# Altium schematic symbol library SCH-47569_A2_Library.SchLib: 96 symbols (part 2 of 3)
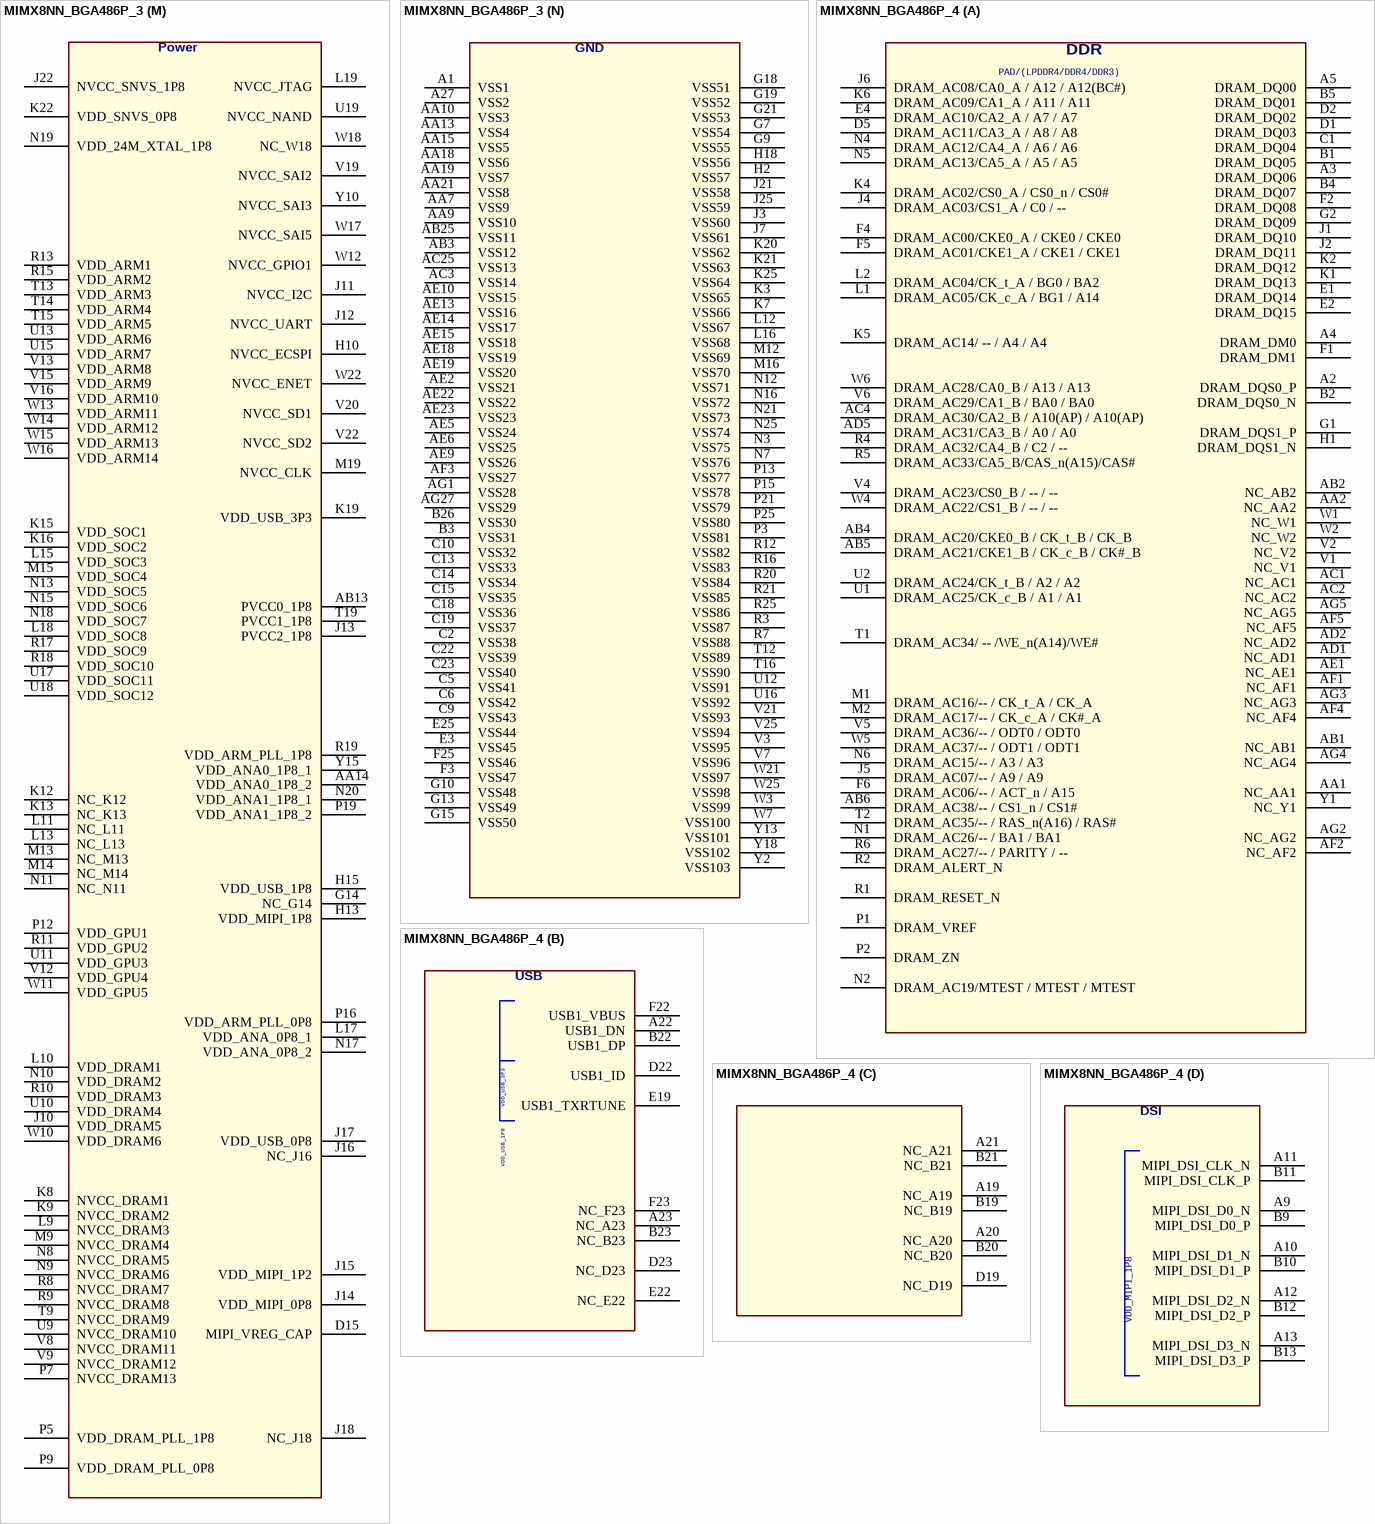
[diagram p31: symbols MIMX8NN_BGA486P_3 to MIMX8NN_BGA486P_4]

## MIMX8NN_BGA486P_3
designator U?
CLASS: IC
part A pins: A2 DRAM_DQS0_P, A3 DRAM_DQ06, A4 DRAM_DM0, A5 DRAM_DQ00, AA1 NC_AA1, AA2 NC_AA2, AB1 NC_AB1, AB2 NC_AB2, AB4 DRAM_AC20/CKE0_B / CK_t_B / CK_B, AB5 DRAM_AC21/CKE1_B / CK_c_B / CK#_B, AB6 DRAM_AC38/-- / CS1_n / CS1#, AC1 NC_AC1, AC2 NC_AC2, AC4 DRAM_AC30/CA2_B / A10(AP) / A10(AP), AD1 NC_AD1, AD2 NC_AD2, AD5 DRAM_AC31/CA3_B / A0 / A0, AE1 NC_AE1, AF1 NC_AF1, AF2 NC_AF2, AF4 NC_AF4, AF5 NC_AF5, AG2 NC_AG2, AG3 NC_AG3, AG4 NC_AG4, AG5 NC_AG5, B1 DRAM_DQ05, B2 DRAM_DQS0_N, B4 DRAM_DQ07, B5 DRAM_DQ01, C1 DRAM_DQ04, D1 DRAM_DQ03, D2 DRAM_DQ02, D5 DRAM_AC11/CA3_A / A8 / A8, E1 DRAM_DQ14, E2 DRAM_DQ15, E4 DRAM_AC10/CA2_A / A7 / A7, F1 DRAM_DM1, F2 DRAM_DQ08, F4 DRAM_AC00/CKE0_A / CKE0 / CKE0, F5 DRAM_AC01/CKE1_A / CKE1 / CKE1, F6 DRAM_AC06/-- / ACT_n / A15, G1 DRAM_DQS1_P, G2 DRAM_DQ09, H1 DRAM_DQS1_N, J1 DRAM_DQ10, J2 DRAM_DQ11, J4 DRAM_AC03/CS1_A / C0 / --, J5 DRAM_AC07/-- / A9 / A9, J6 DRAM_AC08/CA0_A / A12 / A12(BC#), K1 DRAM_DQ13, K2 DRAM_DQ12, K4 DRAM_AC02/CS0_A / CS0_n / CS0#, K5 DRAM_AC14/ -- / A4 / A4, K6 DRAM_AC09/CA1_A / A11 / A11, L1 DRAM_AC05/CK_c_A / BG1 / A14, L2 DRAM_AC04/CK_t_A / BG0 / BA2, M1 DRAM_AC16/-- / CK_t_A / CK_A, M2 DRAM_AC17/-- / CK_c_A / CK#_A, N1 DRAM_AC26/-- / BA1 / BA1, N2 DRAM_AC19/MTEST / MTEST / MTEST, N4 DRAM_AC12/CA4_A / A6 / A6, N5 DRAM_AC13/CA5_A / A5 / A5, N6 DRAM_AC15/-- / A3 / A3, P1 DRAM_VREF, P2 DRAM_ZN, R1 DRAM_RESET_N, R2 DRAM_ALERT_N, R4 DRAM_AC32/CA4_B / C2 / --, R5 DRAM_AC33/CA5_B/CAS_n(A15)/CAS#, R6 DRAM_AC27/-- / PARITY / --, T1 DRAM_AC34/ -- /WE_n(A14)/WE#, T2 DRAM_AC35/-- / RAS_n(A16) / RAS#, U1 DRAM_AC25/CK_c_B / A1 / A1, U2 DRAM_AC24/CK_t_B / A2 / A2, V1 NC_V1, V2 NC_V2, V4 DRAM_AC23/CS0_B / -- / --, V5 DRAM_AC36/-- / ODT0 / ODT0, V6 DRAM_AC29/CA1_B / BA0 / BA0, W1 NC_W1, W2 NC_W2, W4 DRAM_AC22/CS1_B / -- / --, W5 DRAM_AC37/-- / ODT1 / ODT1, W6 DRAM_AC28/CA0_B / A13 / A13, Y1 NC_Y1
part B pins: A22 USB1_DN, A23 NC_A23, B22 USB1_DP, B23 NC_B23, D22 USB1_ID, D23 NC_D23, E19 USB1_TXRTUNE, E22 NC_E22, F22 USB1_VBUS, F23 NC_F23
part C pins: A19 NC_A19, A20 NC_A20, A21 NC_A21, B19 NC_B19, B20 NC_B20, B21 NC_B21, D19 NC_D19
part D pins: A9 MIPI_DSI_D0_N, A10 MIPI_DSI_D1_N, A11 MIPI_DSI_CLK_N, A12 MIPI_DSI_D2_N, A13 MIPI_DSI_D3_N, B9 MIPI_DSI_D0_P, B10 MIPI_DSI_D1_P, B11 MIPI_DSI_CLK_P, B12 MIPI_DSI_D2_P, B13 MIPI_DSI_D3_P
part E pins: A14 MIPI_CSI_D0_N, A15 MIPI_CSI_D1_N, A16 MIPI_CSI_CLK_N, A17 MIPI_CSI_D2_N, A18 MIPI_CSI_D3_N, B14 MIPI_CSI_D0_P, B15 MIPI_CSI_D1_P, B16 MIPI_CSI_CLK_P, B17 MIPI_CSI_D2_P, B18 MIPI_CSI_D3_P
part F pins: D9 I2C2_SDA, D10 I2C2_SCL, D13 I2C4_SCL, D18 UART3_TXD, E9 I2C1_SCL, E10 I2C3_SCL, E13 I2C4_SDA, E14 UART1_RXD, E15 UART2_TXD, E18 UART3_RXD, F9 I2C1_SDA, F10 I2C3_SDA, F13 UART1_TXD, F15 UART2_RXD, F18 UART4_TXD, F19 UART4_RXD
part G pins: AB15 SAI5_RXFS, AB18 NC_AB18, AB19 NC_AB19, AB22 SAI2_RXC, AC6 SAI3_TXFS, AC13 SAI5_RXD3, AC14 SAI5_RXD1, AC15 SAI5_RXC, AC18 NC_AC18, AC19 SAI2_RXFS, AC22 SAI2_TXD0, AC24 SAI2_RXD0, AD6 SAI3_MCLK, AD13 SAI5_RXD2, AD15 SAI5_MCLK, AD18 SAI5_RXD0, AD19 SAI2_MCLK, AD22 SAI2_TXC, AD23 SAI2_TXFS, AF6 SAI3_TXD, AF7 SAI3_RXD, AF8 SPDIF_EXT_CLK, AF9 SPDIF_TX, AF15 NC_AF15, AF16 NC_AF16, AF17 NC_AF17, AF18 NC_AF18, AF19 NC_AF19, AF20 NC_AF20, AF21 NC_AF21, AF22 NC_AF22, AF23 NC_AF23, AG6 SAI3_TXC, AG7 SAI3_RXC, AG8 SAI3_RXFS, AG9 SPDIF_RX, AG15 NC_AG15, AG16 NC_AG16, AG17 NC_AG17, AG18 NC_AG18, AG19 NC_AG19, AG20 NC_AG20, AG21 NC_AG21, AG22 NC_AG22, AG23 NC_AG23
part H pins: K23 NAND_DATA02, K24 NAND_DATA01, K26 NAND_DATA06, K27 NAND_CLE, L26 NAND_DATA05, L27 NAND_CE3_B, M26 NAND_DATA04, M27 NAND_CE2_B, N22 NAND_ALE, N23 NAND_DATA03, N24 NAND_CE0_B, N26 NAND_DATA07, N27 NAND_RE_B, P23 NAND_DATA00, P26 NAND_READY_B, P27 NAND_CE1_B, R22 NAND_DQS, R26 NAND_WE_B, R27 NAND_WP_B
part I pins: AA26 SD2_CD_B, AA27 SD2_WP, AB23 SD2_DATA0, AB24 SD2_DATA1, AB26 SD2_RESET_B, R23 SD1_RESET_B, R24 SD1_STROBE, T26 SD1_DATA3, T27 SD1_DATA2, U26 SD1_DATA5, U27 SD1_DATA4, V23 SD2_DATA3, V24 SD2_DATA2, V26 SD1_CLK, V27 SD1_CMD, W23 SD2_CLK, W24 SD2_CMD, W26 SD1_DATA7, W27 SD1_DATA6, Y26 SD1_DATA1, Y27 SD1_DATA0
part J pins: AB27 ENET_MDIO, AC26 ENET_RD3, AC27 ENET_MDC, AD26 ENET_RD2, AD27 ENET_RD1, AE26 ENET_RXC, AE27 ENET_RD0, AF24 ENET_TX_CTL, AF25 ENET_TD3, AF26 ENET_TD1, AF27 ENET_RX_CTL, AG24 ENET_TXC, AG25 ENET_TD2, AG26 ENET_TD0
part K pins: A6 ECSPI2_SS0, A7 ECSPI1_MISO, A8 ECSPI2_MISO, AB9 GPIO1_IO15, AB10 GPIO1_IO12, AC9 GPIO1_IO14, AC10 GPIO1_IO11, AD9 GPIO1_IO13, AD10 GPIO1_IO10, AF10 GPIO1_IO09, AF11 GPIO1_IO07, AF12 GPIO1_IO05, AF13 GPIO1_IO03, AF14 GPIO1_IO01, AG10 GPIO1_IO08, AG11 GPIO1_IO06, AG12 GPIO1_IO04, AG13 GPIO1_IO02, AG14 GPIO1_IO00, B6 ECSPI1_SS0, B7 ECSPI1_MOSI, B8 ECSPI2_MOSI, D6 ECSPI1_SCLK, E6 ECSPI2_SCLK
part L pins: A24 PMIC_ON_REQ, A25 ONOFF, A26 RTC_XTALI, B24 POR_B, B25 RTC_XTALO, B27 24M_XTALI, C26 24M_XTALO, C27 BOOT_MODE2, D26 BOOT_MODE3, D27 JTAG_MOD, E24 PMIC_STBY_REQ, E26 JTAG_TDO, E27 JTAG_TDI, F24 RTC_RESET_B, F26 JTAG_TCK, F27 JTAG_TMS, G26 BOOT_MODE0, G27 BOOT_MODE1, H26 CLKOUT1, H27 CLKIN1, J23 TSENSOR_TEST_OUT, J24 TSENSOR_RES_EXT, J26 CLKOUT2, J27 CLKIN2
part M pins: AA14 VDD_ANA0_1P8_2 (power), AB13 PVCC0_1P8 (power), D15 MIPI_VREG_CAP, G14 NC_G14 (power), H10 NVCC_ECSPI (power), H13 VDD_MIPI_1P8 (power), H15 VDD_USB_1P8 (power), J10 VDD_DRAM5 (power), J11 NVCC_I2C (power), J12 NVCC_UART (power), J13 PVCC2_1P8 (power), J14 VDD_MIPI_0P8 (power), J15 VDD_MIPI_1P2 (power), J16 NC_J16 (power), J17 VDD_USB_0P8 (power), J18 NC_J18 (power), J22 NVCC_SNVS_1P8 (power), K8 NVCC_DRAM1 (power), K9 NVCC_DRAM2 (power), K12 NC_K12 (power), K13 NC_K13 (power), K15 VDD_SOC1 (power), K16 VDD_SOC2 (power), K19 VDD_USB_3P3 (power), K22 VDD_SNVS_0P8 (power), L9 NVCC_DRAM3 (power), L10 VDD_DRAM1 (power), L11 NC_L11 (power), L13 NC_L13 (power), L15 VDD_SOC3 (power), L17 VDD_ANA_0P8_1 (power), L18 VDD_SOC8 (power), L19 NVCC_JTAG (power), M9 NVCC_DRAM4 (power), M13 NC_M13 (power), M14 NC_M14 (power), M15 VDD_SOC4 (power), M19 NVCC_CLK (power), N8 NVCC_DRAM5 (power), N9 NVCC_DRAM6 (power), N10 VDD_DRAM2 (power), N11 NC_N11 (power), N13 VDD_SOC5 (power), N15 VDD_SOC6 (power), N17 VDD_ANA_0P8_2 (power), N18 VDD_SOC7 (power), N19 VDD_24M_XTAL_1P8 (power), N20 VDD_ANA1_1P8_1 (power), P5 VDD_DRAM_PLL_1P8 (power), P7 NVCC_DRAM13, P9 VDD_DRAM_PLL_0P8 (power), P12 VDD_GPU1 (power), P16 VDD_ARM_PLL_0P8 (power), P19 VDD_ANA1_1P8_2 (power), R8 NVCC_DRAM7 (power), R9 NVCC_DRAM8 (power), R10 VDD_DRAM3 (power), R11 VDD_GPU2 (power), R13 VDD_ARM1 (power), R15 VDD_ARM2 (power), R17 VDD_SOC9 (power), R18 VDD_SOC10 (power), R19 VDD_ARM_PLL_1P8 (power), T9 NVCC_DRAM9 (power), T13 VDD_ARM3 (power), T14 VDD_ARM4 (power), T15 VDD_ARM5 (power), T19 PVCC1_1P8 (power), U9 NVCC_DRAM10 (power), U10 VDD_DRAM4 (power), U11 VDD_GPU3 (power), U13 VDD_ARM6 (power), U15 VDD_ARM7 (power), U17 VDD_SOC11 (power), U18 VDD_SOC12 (power), U19 NVCC_NAND (power), V8 NVCC_DRAM11 (power), V9 NVCC_DRAM12 (power), V12 VDD_GPU4 (power), V13 VDD_ARM8 (power), V15 VDD_ARM9 (power), V16 VDD_ARM10 (power), V19 NVCC_SAI2 (power), V20 NVCC_SD1 (power), V22 NVCC_SD2 (power), W10 VDD_DRAM6 (power), W11 VDD_GPU5 (power), W12 NVCC_GPIO1 (power), W13 VDD_ARM11 (power), W14 VDD_ARM12 (power), W15 VDD_ARM13 (power), W16 VDD_ARM14 (power), W17 NVCC_SAI5 (power), W18 NC_W18 (power), W22 NVCC_ENET (power), Y10 NVCC_SAI3 (power), Y15 VDD_ANA0_1P8_1 (power)
part N pins: A1 VSS1 (power), A27 VSS2 (power), AA7 VSS9 (power), AA9 VSS10 (power), AA10 VSS3 (power), AA13 VSS4 (power), AA15 VSS5 (power), AA18 VSS6 (power), AA19 VSS7 (power), AA21 VSS8 (power), AB3 VSS12 (power), AB25 VSS11 (power), AC3 VSS14 (power), AC25 VSS13 (power), AE2 VSS21 (power), AE5 VSS24 (power), AE6 VSS25 (power), AE9 VSS26 (power), AE10 VSS15 (power), AE13 VSS16 (power), AE14 VSS17 (power), AE15 VSS18 (power), AE18 VSS19 (power), AE19 VSS20 (power), AE22 VSS22 (power), AE23 VSS23 (power), AF3 VSS27 (power), AG1 VSS28 (power), AG27 VSS29 (power), B3 VSS31 (power), B26 VSS30 (power), C2 VSS38 (power), C5 VSS41 (power), C6 VSS42 (power), C9 VSS43 (power), C10 VSS32 (power), C13 VSS33 (power), C14 VSS34 (power), C15 VSS35 (power), C18 VSS36 (power), C19 VSS37 (power), C22 VSS39 (power), C23 VSS40 (power), E3 VSS45 (power), E25 VSS44 (power), F3 VSS47 (power), F25 VSS46 (power), G7 VSS54 (power), G9 VSS55 (power), G10 VSS48 (power), G13 VSS49 (power), G15 VSS50 (power), G18 VSS51 (power), G19 VSS52 (power), G21 VSS53 (power), H2 VSS57 (power), H18 VSS56 (power), J3 VSS60 (power), J7 VSS61 (power), J21 VSS58 (power), J25 VSS59 (power), K3 VSS65 (power), K7 VSS66 (power), K20 VSS62 (power), K21 VSS63 (power), K25 VSS64 (power), L12 VSS67 (power), L16 VSS68 (power), M12 VSS69 (power), M16 VSS70 (power), N3 VSS75 (power), N7 VSS76 (power), N12 VSS71 (power), N16 VSS72 (power), N21 VSS73 (power), N25 VSS74 (power), P3 VSS81 (power), P13 VSS77 (power), P15 VSS78 (power), P21 VSS79 (power), P25 VSS80 (power), R3 VSS87 (power), R7 VSS88 (power), R12 VSS82 (power), R16 VSS83 (power), R20 VSS84 (power), R21 VSS85 (power), R25 VSS86 (power), T12 VSS89 (power), T16 VSS90 (power), U12 VSS91 (power), U16 VSS92 (power), V3 VSS95 (power), V7 VSS96 (power), V21 VSS93 (power), V25 VSS94 (power), W3 VSS99 (power), W7 VSS100 (power), W21 VSS97 (power), W25 VSS98 (power), Y2 VSS103 (power), Y13 VSS101 (power), Y18 VSS102 (power)
part A text: DDR; PAD/(LPDDR4/DDR4/DDR3)
part B text: USB
part D text: DSI
part E text: CSI
part F text: UART&I2C
part G text: SAI
part H text: NAND
part I text: SDHC
part J text: eNET
part K text: SPI&GPIO
part L text: MISC; VDD_ANA1_1P8
part M text: Power
part N text: GND

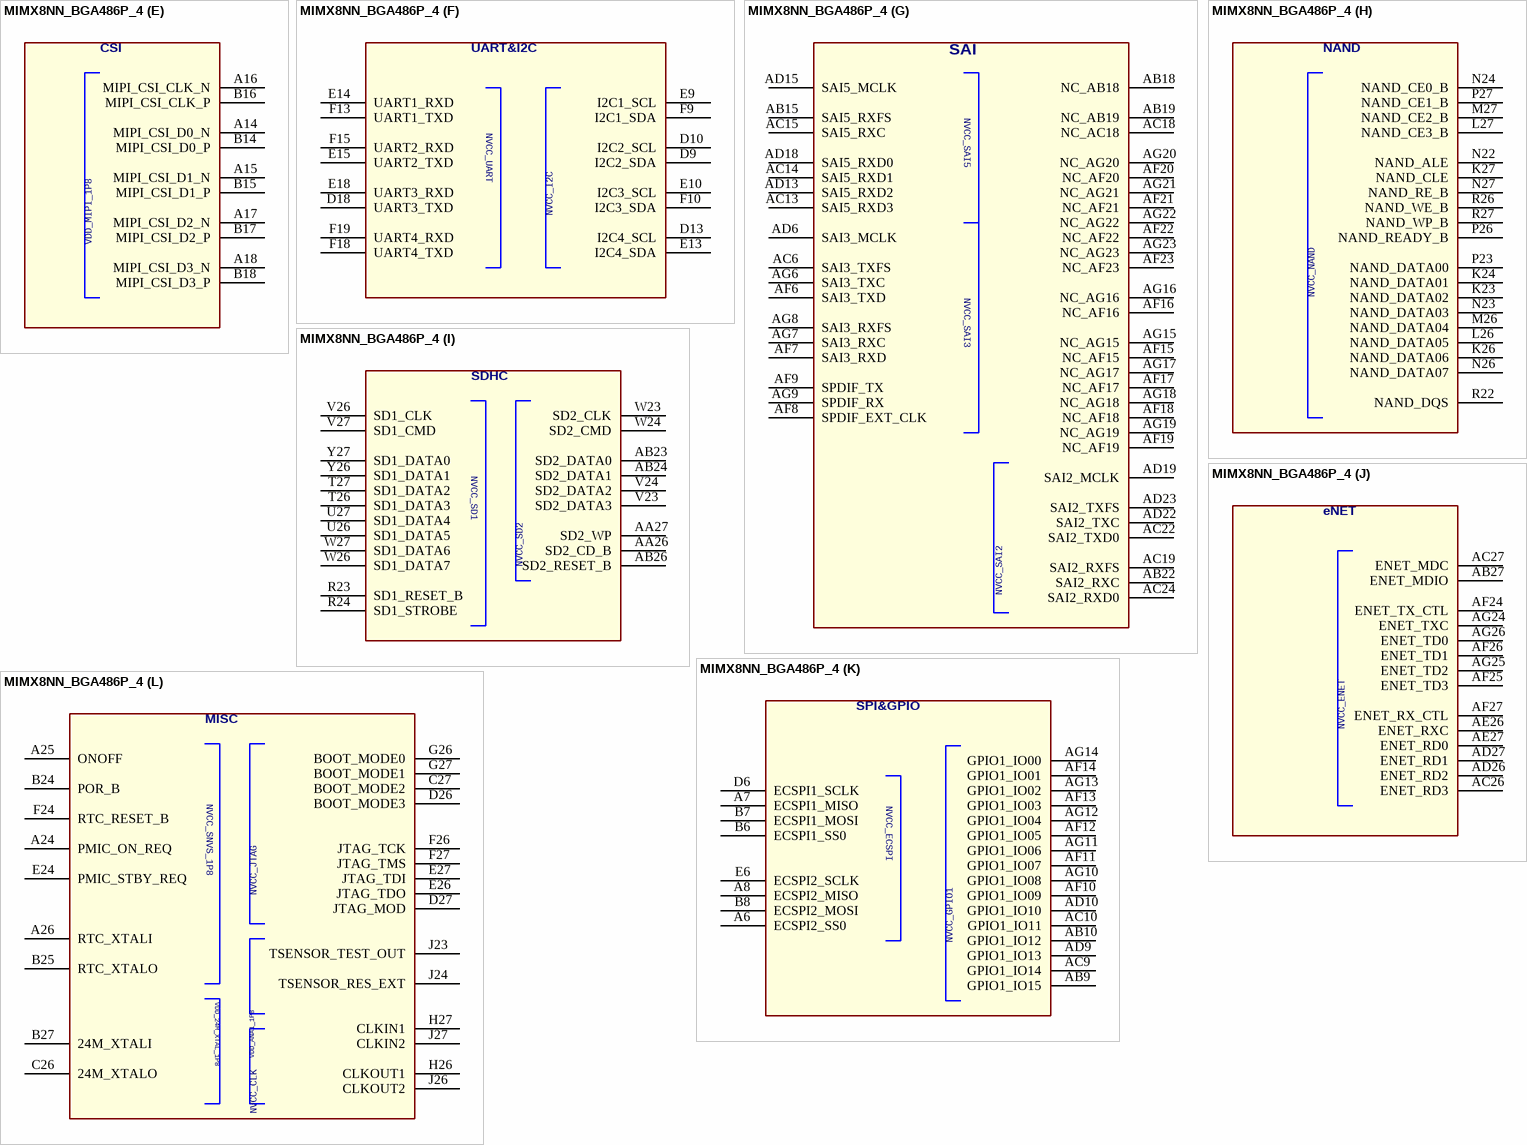
[diagram p14: symbol MIMX8NN_BGA486P_4]

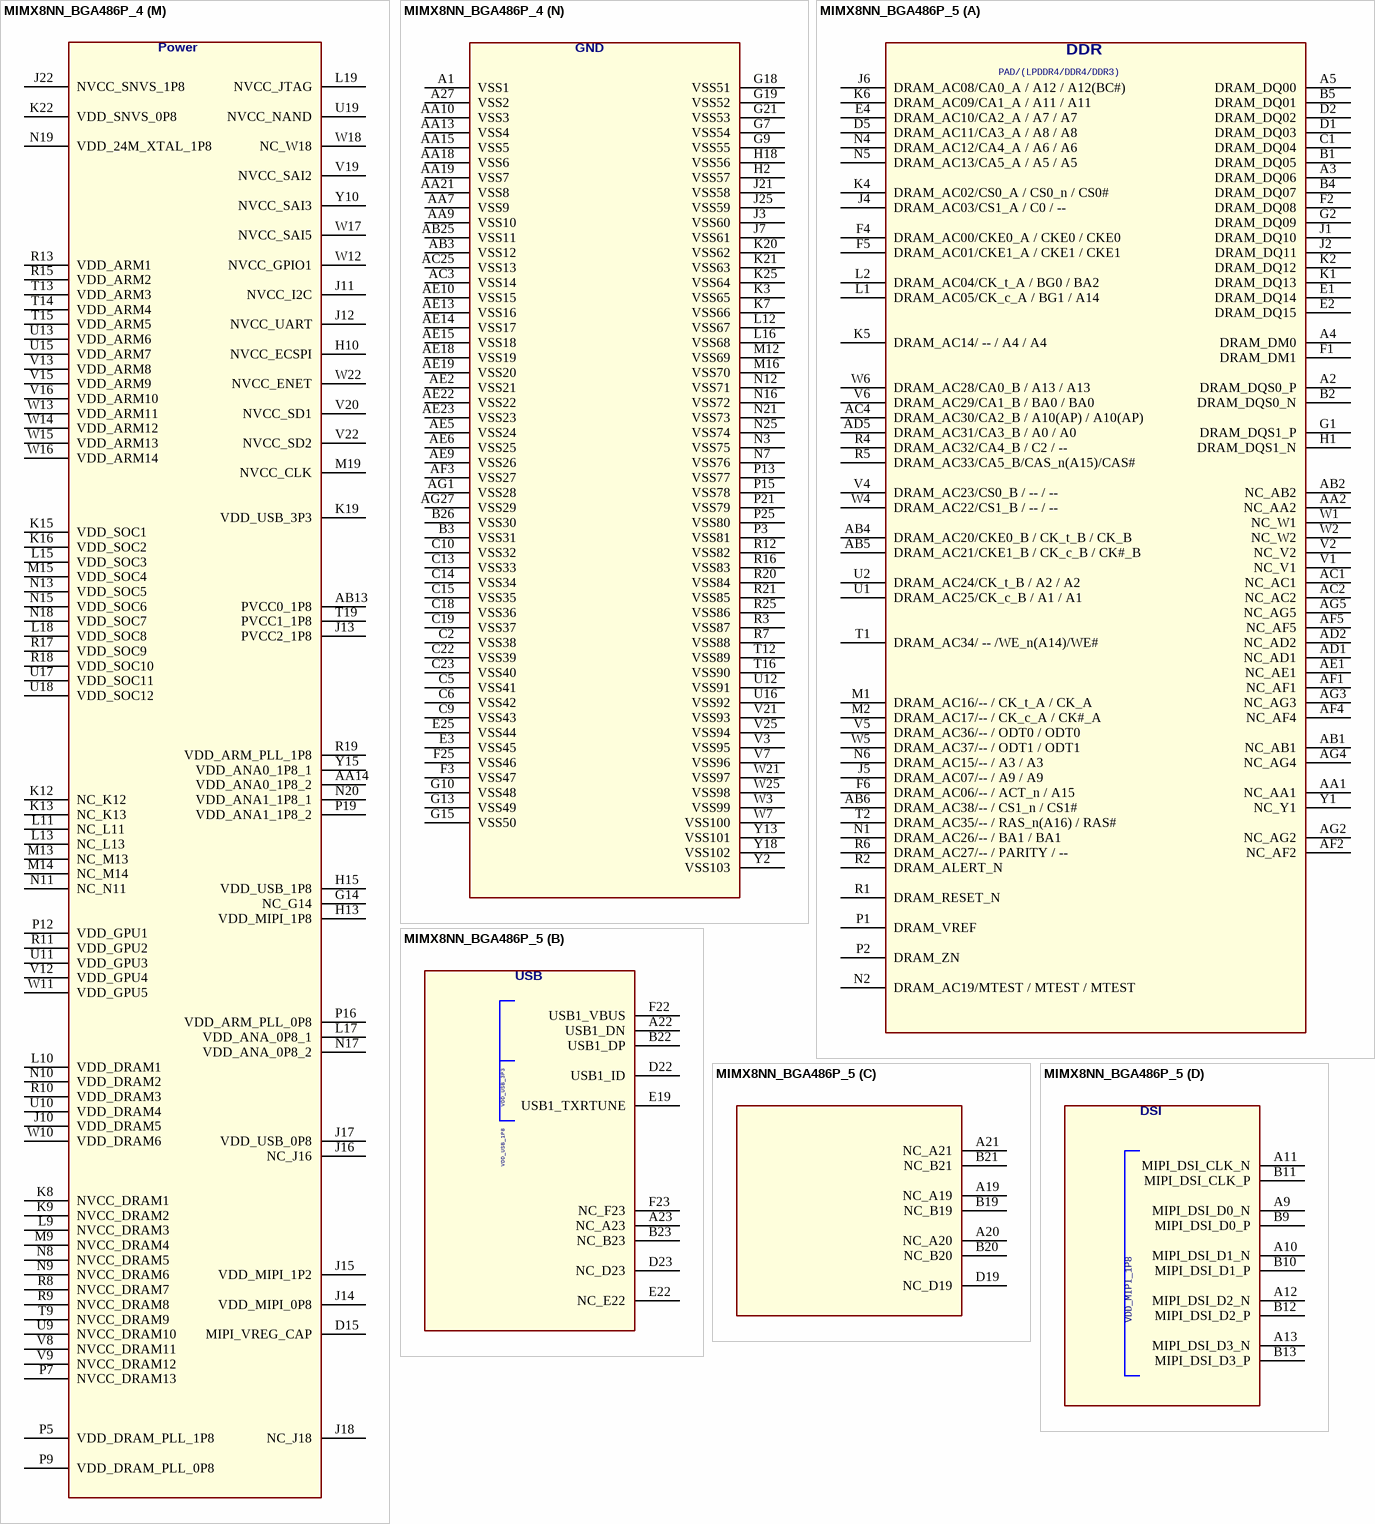
[diagram p15: symbols MIMX8NN_BGA486P_4 to MIMX8NN_BGA486P_5]

## MIMX8NN_BGA486P_4
designator U?
CLASS: IC
part A pins: A2 DRAM_DQS0_P, A3 DRAM_DQ06, A4 DRAM_DM0, A5 DRAM_DQ00, AA1 NC_AA1, AA2 NC_AA2, AB1 NC_AB1, AB2 NC_AB2, AB4 DRAM_AC20/CKE0_B / CK_t_B / CK_B, AB5 DRAM_AC21/CKE1_B / CK_c_B / CK#_B, AB6 DRAM_AC38/-- / CS1_n / CS1#, AC1 NC_AC1, AC2 NC_AC2, AC4 DRAM_AC30/CA2_B / A10(AP) / A10(AP), AD1 NC_AD1, AD2 NC_AD2, AD5 DRAM_AC31/CA3_B / A0 / A0, AE1 NC_AE1, AF1 NC_AF1, AF2 NC_AF2, AF4 NC_AF4, AF5 NC_AF5, AG2 NC_AG2, AG3 NC_AG3, AG4 NC_AG4, AG5 NC_AG5, B1 DRAM_DQ05, B2 DRAM_DQS0_N, B4 DRAM_DQ07, B5 DRAM_DQ01, C1 DRAM_DQ04, D1 DRAM_DQ03, D2 DRAM_DQ02, D5 DRAM_AC11/CA3_A / A8 / A8, E1 DRAM_DQ14, E2 DRAM_DQ15, E4 DRAM_AC10/CA2_A / A7 / A7, F1 DRAM_DM1, F2 DRAM_DQ08, F4 DRAM_AC00/CKE0_A / CKE0 / CKE0, F5 DRAM_AC01/CKE1_A / CKE1 / CKE1, F6 DRAM_AC06/-- / ACT_n / A15, G1 DRAM_DQS1_P, G2 DRAM_DQ09, H1 DRAM_DQS1_N, J1 DRAM_DQ10, J2 DRAM_DQ11, J4 DRAM_AC03/CS1_A / C0 / --, J5 DRAM_AC07/-- / A9 / A9, J6 DRAM_AC08/CA0_A / A12 / A12(BC#), K1 DRAM_DQ13, K2 DRAM_DQ12, K4 DRAM_AC02/CS0_A / CS0_n / CS0#, K5 DRAM_AC14/ -- / A4 / A4, K6 DRAM_AC09/CA1_A / A11 / A11, L1 DRAM_AC05/CK_c_A / BG1 / A14, L2 DRAM_AC04/CK_t_A / BG0 / BA2, M1 DRAM_AC16/-- / CK_t_A / CK_A, M2 DRAM_AC17/-- / CK_c_A / CK#_A, N1 DRAM_AC26/-- / BA1 / BA1, N2 DRAM_AC19/MTEST / MTEST / MTEST, N4 DRAM_AC12/CA4_A / A6 / A6, N5 DRAM_AC13/CA5_A / A5 / A5, N6 DRAM_AC15/-- / A3 / A3, P1 DRAM_VREF, P2 DRAM_ZN, R1 DRAM_RESET_N, R2 DRAM_ALERT_N, R4 DRAM_AC32/CA4_B / C2 / --, R5 DRAM_AC33/CA5_B/CAS_n(A15)/CAS#, R6 DRAM_AC27/-- / PARITY / --, T1 DRAM_AC34/ -- /WE_n(A14)/WE#, T2 DRAM_AC35/-- / RAS_n(A16) / RAS#, U1 DRAM_AC25/CK_c_B / A1 / A1, U2 DRAM_AC24/CK_t_B / A2 / A2, V1 NC_V1, V2 NC_V2, V4 DRAM_AC23/CS0_B / -- / --, V5 DRAM_AC36/-- / ODT0 / ODT0, V6 DRAM_AC29/CA1_B / BA0 / BA0, W1 NC_W1, W2 NC_W2, W4 DRAM_AC22/CS1_B / -- / --, W5 DRAM_AC37/-- / ODT1 / ODT1, W6 DRAM_AC28/CA0_B / A13 / A13, Y1 NC_Y1
part B pins: A22 USB1_DN, A23 NC_A23, B22 USB1_DP, B23 NC_B23, D22 USB1_ID, D23 NC_D23, E19 USB1_TXRTUNE, E22 NC_E22, F22 USB1_VBUS, F23 NC_F23
part C pins: A19 NC_A19, A20 NC_A20, A21 NC_A21, B19 NC_B19, B20 NC_B20, B21 NC_B21, D19 NC_D19
part D pins: A9 MIPI_DSI_D0_N, A10 MIPI_DSI_D1_N, A11 MIPI_DSI_CLK_N, A12 MIPI_DSI_D2_N, A13 MIPI_DSI_D3_N, B9 MIPI_DSI_D0_P, B10 MIPI_DSI_D1_P, B11 MIPI_DSI_CLK_P, B12 MIPI_DSI_D2_P, B13 MIPI_DSI_D3_P
part E pins: A14 MIPI_CSI_D0_N, A15 MIPI_CSI_D1_N, A16 MIPI_CSI_CLK_N, A17 MIPI_CSI_D2_N, A18 MIPI_CSI_D3_N, B14 MIPI_CSI_D0_P, B15 MIPI_CSI_D1_P, B16 MIPI_CSI_CLK_P, B17 MIPI_CSI_D2_P, B18 MIPI_CSI_D3_P
part F pins: D9 I2C2_SDA, D10 I2C2_SCL, D13 I2C4_SCL, D18 UART3_TXD, E9 I2C1_SCL, E10 I2C3_SCL, E13 I2C4_SDA, E14 UART1_RXD, E15 UART2_TXD, E18 UART3_RXD, F9 I2C1_SDA, F10 I2C3_SDA, F13 UART1_TXD, F15 UART2_RXD, F18 UART4_TXD, F19 UART4_RXD
part G pins: AB15 SAI5_RXFS, AB18 NC_AB18, AB19 NC_AB19, AB22 SAI2_RXC, AC6 SAI3_TXFS, AC13 SAI5_RXD3, AC14 SAI5_RXD1, AC15 SAI5_RXC, AC18 NC_AC18, AC19 SAI2_RXFS, AC22 SAI2_TXD0, AC24 SAI2_RXD0, AD6 SAI3_MCLK, AD13 SAI5_RXD2, AD15 SAI5_MCLK, AD18 SAI5_RXD0, AD19 SAI2_MCLK, AD22 SAI2_TXC, AD23 SAI2_TXFS, AF6 SAI3_TXD, AF7 SAI3_RXD, AF8 SPDIF_EXT_CLK, AF9 SPDIF_TX, AF15 NC_AF15, AF16 NC_AF16, AF17 NC_AF17, AF18 NC_AF18, AF19 NC_AF19, AF20 NC_AF20, AF21 NC_AF21, AF22 NC_AF22, AF23 NC_AF23, AG6 SAI3_TXC, AG7 SAI3_RXC, AG8 SAI3_RXFS, AG9 SPDIF_RX, AG15 NC_AG15, AG16 NC_AG16, AG17 NC_AG17, AG18 NC_AG18, AG19 NC_AG19, AG20 NC_AG20, AG21 NC_AG21, AG22 NC_AG22, AG23 NC_AG23
part H pins: K23 NAND_DATA02, K24 NAND_DATA01, K26 NAND_DATA06, K27 NAND_CLE, L26 NAND_DATA05, L27 NAND_CE3_B, M26 NAND_DATA04, M27 NAND_CE2_B, N22 NAND_ALE, N23 NAND_DATA03, N24 NAND_CE0_B, N26 NAND_DATA07, N27 NAND_RE_B, P23 NAND_DATA00, P26 NAND_READY_B, P27 NAND_CE1_B, R22 NAND_DQS, R26 NAND_WE_B, R27 NAND_WP_B
part I pins: AA26 SD2_CD_B, AA27 SD2_WP, AB23 SD2_DATA0, AB24 SD2_DATA1, AB26 SD2_RESET_B, R23 SD1_RESET_B, R24 SD1_STROBE, T26 SD1_DATA3, T27 SD1_DATA2, U26 SD1_DATA5, U27 SD1_DATA4, V23 SD2_DATA3, V24 SD2_DATA2, V26 SD1_CLK, V27 SD1_CMD, W23 SD2_CLK, W24 SD2_CMD, W26 SD1_DATA7, W27 SD1_DATA6, Y26 SD1_DATA1, Y27 SD1_DATA0
part J pins: AB27 ENET_MDIO, AC26 ENET_RD3, AC27 ENET_MDC, AD26 ENET_RD2, AD27 ENET_RD1, AE26 ENET_RXC, AE27 ENET_RD0, AF24 ENET_TX_CTL, AF25 ENET_TD3, AF26 ENET_TD1, AF27 ENET_RX_CTL, AG24 ENET_TXC, AG25 ENET_TD2, AG26 ENET_TD0
part K pins: A6 ECSPI2_SS0, A7 ECSPI1_MISO, A8 ECSPI2_MISO, AB9 GPIO1_IO15, AB10 GPIO1_IO12, AC9 GPIO1_IO14, AC10 GPIO1_IO11, AD9 GPIO1_IO13, AD10 GPIO1_IO10, AF10 GPIO1_IO09, AF11 GPIO1_IO07, AF12 GPIO1_IO05, AF13 GPIO1_IO03, AF14 GPIO1_IO01, AG10 GPIO1_IO08, AG11 GPIO1_IO06, AG12 GPIO1_IO04, AG13 GPIO1_IO02, AG14 GPIO1_IO00, B6 ECSPI1_SS0, B7 ECSPI1_MOSI, B8 ECSPI2_MOSI, D6 ECSPI1_SCLK, E6 ECSPI2_SCLK
part L pins: A24 PMIC_ON_REQ, A25 ONOFF, A26 RTC_XTALI, B24 POR_B, B25 RTC_XTALO, B27 24M_XTALI, C26 24M_XTALO, C27 BOOT_MODE2, D26 BOOT_MODE3, D27 JTAG_MOD, E24 PMIC_STBY_REQ, E26 JTAG_TDO, E27 JTAG_TDI, F24 RTC_RESET_B, F26 JTAG_TCK, F27 JTAG_TMS, G26 BOOT_MODE0, G27 BOOT_MODE1, H26 CLKOUT1, H27 CLKIN1, J23 TSENSOR_TEST_OUT, J24 TSENSOR_RES_EXT, J26 CLKOUT2, J27 CLKIN2
part M pins: AA14 VDD_ANA0_1P8_2 (power), AB13 PVCC0_1P8 (power), D15 MIPI_VREG_CAP, G14 NC_G14 (power), H10 NVCC_ECSPI (power), H13 VDD_MIPI_1P8 (power), H15 VDD_USB_1P8 (power), J10 VDD_DRAM5 (power), J11 NVCC_I2C (power), J12 NVCC_UART (power), J13 PVCC2_1P8 (power), J14 VDD_MIPI_0P8 (power), J15 VDD_MIPI_1P2 (power), J16 NC_J16 (power), J17 VDD_USB_0P8 (power), J18 NC_J18 (power), J22 NVCC_SNVS_1P8 (power), K8 NVCC_DRAM1 (power), K9 NVCC_DRAM2 (power), K12 NC_K12, K13 NC_K13, K15 VDD_SOC1 (power), K16 VDD_SOC2 (power), K19 VDD_USB_3P3 (power), K22 VDD_SNVS_0P8 (power), L9 NVCC_DRAM3 (power), L10 VDD_DRAM1 (power), L11 NC_L11, L13 NC_L13, L15 VDD_SOC3 (power), L17 VDD_ANA_0P8_1 (power), L18 VDD_SOC8 (power), L19 NVCC_JTAG (power), M9 NVCC_DRAM4 (power), M13 NC_M13, M14 NC_M14, M15 VDD_SOC4 (power), M19 NVCC_CLK (power), N8 NVCC_DRAM5 (power), N9 NVCC_DRAM6 (power), N10 VDD_DRAM2 (power), N11 NC_N11, N13 VDD_SOC5 (power), N15 VDD_SOC6 (power), N17 VDD_ANA_0P8_2 (power), N18 VDD_SOC7 (power), N19 VDD_24M_XTAL_1P8 (power), N20 VDD_ANA1_1P8_1 (power), P5 VDD_DRAM_PLL_1P8 (power), P7 NVCC_DRAM13, P9 VDD_DRAM_PLL_0P8 (power), P12 VDD_GPU1 (power), P16 VDD_ARM_PLL_0P8 (power), P19 VDD_ANA1_1P8_2 (power), R8 NVCC_DRAM7 (power), R9 NVCC_DRAM8 (power), R10 VDD_DRAM3 (power), R11 VDD_GPU2 (power), R13 VDD_ARM1 (power), R15 VDD_ARM2 (power), R17 VDD_SOC9 (power), R18 VDD_SOC10 (power), R19 VDD_ARM_PLL_1P8 (power), T9 NVCC_DRAM9 (power), T13 VDD_ARM3 (power), T14 VDD_ARM4 (power), T15 VDD_ARM5 (power), T19 PVCC1_1P8 (power), U9 NVCC_DRAM10 (power), U10 VDD_DRAM4 (power), U11 VDD_GPU3 (power), U13 VDD_ARM6 (power), U15 VDD_ARM7 (power), U17 VDD_SOC11 (power), U18 VDD_SOC12 (power), U19 NVCC_NAND (power), V8 NVCC_DRAM11 (power), V9 NVCC_DRAM12 (power), V12 VDD_GPU4 (power), V13 VDD_ARM8 (power), V15 VDD_ARM9 (power), V16 VDD_ARM10 (power), V19 NVCC_SAI2 (power), V20 NVCC_SD1 (power), V22 NVCC_SD2 (power), W10 VDD_DRAM6 (power), W11 VDD_GPU5 (power), W12 NVCC_GPIO1 (power), W13 VDD_ARM11 (power), W14 VDD_ARM12 (power), W15 VDD_ARM13 (power), W16 VDD_ARM14 (power), W17 NVCC_SAI5 (power), W18 NC_W18 (power), W22 NVCC_ENET (power), Y10 NVCC_SAI3 (power), Y15 VDD_ANA0_1P8_1 (power)
part N pins: A1 VSS1 (power), A27 VSS2 (power), AA7 VSS9 (power), AA9 VSS10 (power), AA10 VSS3 (power), AA13 VSS4 (power), AA15 VSS5 (power), AA18 VSS6 (power), AA19 VSS7 (power), AA21 VSS8 (power), AB3 VSS12 (power), AB25 VSS11 (power), AC3 VSS14 (power), AC25 VSS13 (power), AE2 VSS21 (power), AE5 VSS24 (power), AE6 VSS25 (power), AE9 VSS26 (power), AE10 VSS15 (power), AE13 VSS16 (power), AE14 VSS17 (power), AE15 VSS18 (power), AE18 VSS19 (power), AE19 VSS20 (power), AE22 VSS22 (power), AE23 VSS23 (power), AF3 VSS27 (power), AG1 VSS28 (power), AG27 VSS29 (power), B3 VSS31 (power), B26 VSS30 (power), C2 VSS38 (power), C5 VSS41 (power), C6 VSS42 (power), C9 VSS43 (power), C10 VSS32 (power), C13 VSS33 (power), C14 VSS34 (power), C15 VSS35 (power), C18 VSS36 (power), C19 VSS37 (power), C22 VSS39 (power), C23 VSS40 (power), E3 VSS45 (power), E25 VSS44 (power), F3 VSS47 (power), F25 VSS46 (power), G7 VSS54 (power), G9 VSS55 (power), G10 VSS48 (power), G13 VSS49 (power), G15 VSS50 (power), G18 VSS51 (power), G19 VSS52 (power), G21 VSS53 (power), H2 VSS57 (power), H18 VSS56 (power), J3 VSS60 (power), J7 VSS61 (power), J21 VSS58 (power), J25 VSS59 (power), K3 VSS65 (power), K7 VSS66 (power), K20 VSS62 (power), K21 VSS63 (power), K25 VSS64 (power), L12 VSS67 (power), L16 VSS68 (power), M12 VSS69 (power), M16 VSS70 (power), N3 VSS75 (power), N7 VSS76 (power), N12 VSS71 (power), N16 VSS72 (power), N21 VSS73 (power), N25 VSS74 (power), P3 VSS81 (power), P13 VSS77 (power), P15 VSS78 (power), P21 VSS79 (power), P25 VSS80 (power), R3 VSS87 (power), R7 VSS88 (power), R12 VSS82 (power), R16 VSS83 (power), R20 VSS84 (power), R21 VSS85 (power), R25 VSS86 (power), T12 VSS89 (power), T16 VSS90 (power), U12 VSS91 (power), U16 VSS92 (power), V3 VSS95 (power), V7 VSS96 (power), V21 VSS93 (power), V25 VSS94 (power), W3 VSS99 (power), W7 VSS100 (power), W21 VSS97 (power), W25 VSS98 (power), Y2 VSS103 (power), Y13 VSS101 (power), Y18 VSS102 (power)
part A text: DDR; PAD/(LPDDR4/DDR4/DDR3)
part B text: USB
part D text: DSI
part E text: CSI
part F text: UART&I2C
part G text: SAI
part H text: NAND
part I text: SDHC
part J text: eNET
part K text: SPI&GPIO
part L text: MISC; VDD_ANA1_1P8
part M text: Power
part N text: GND

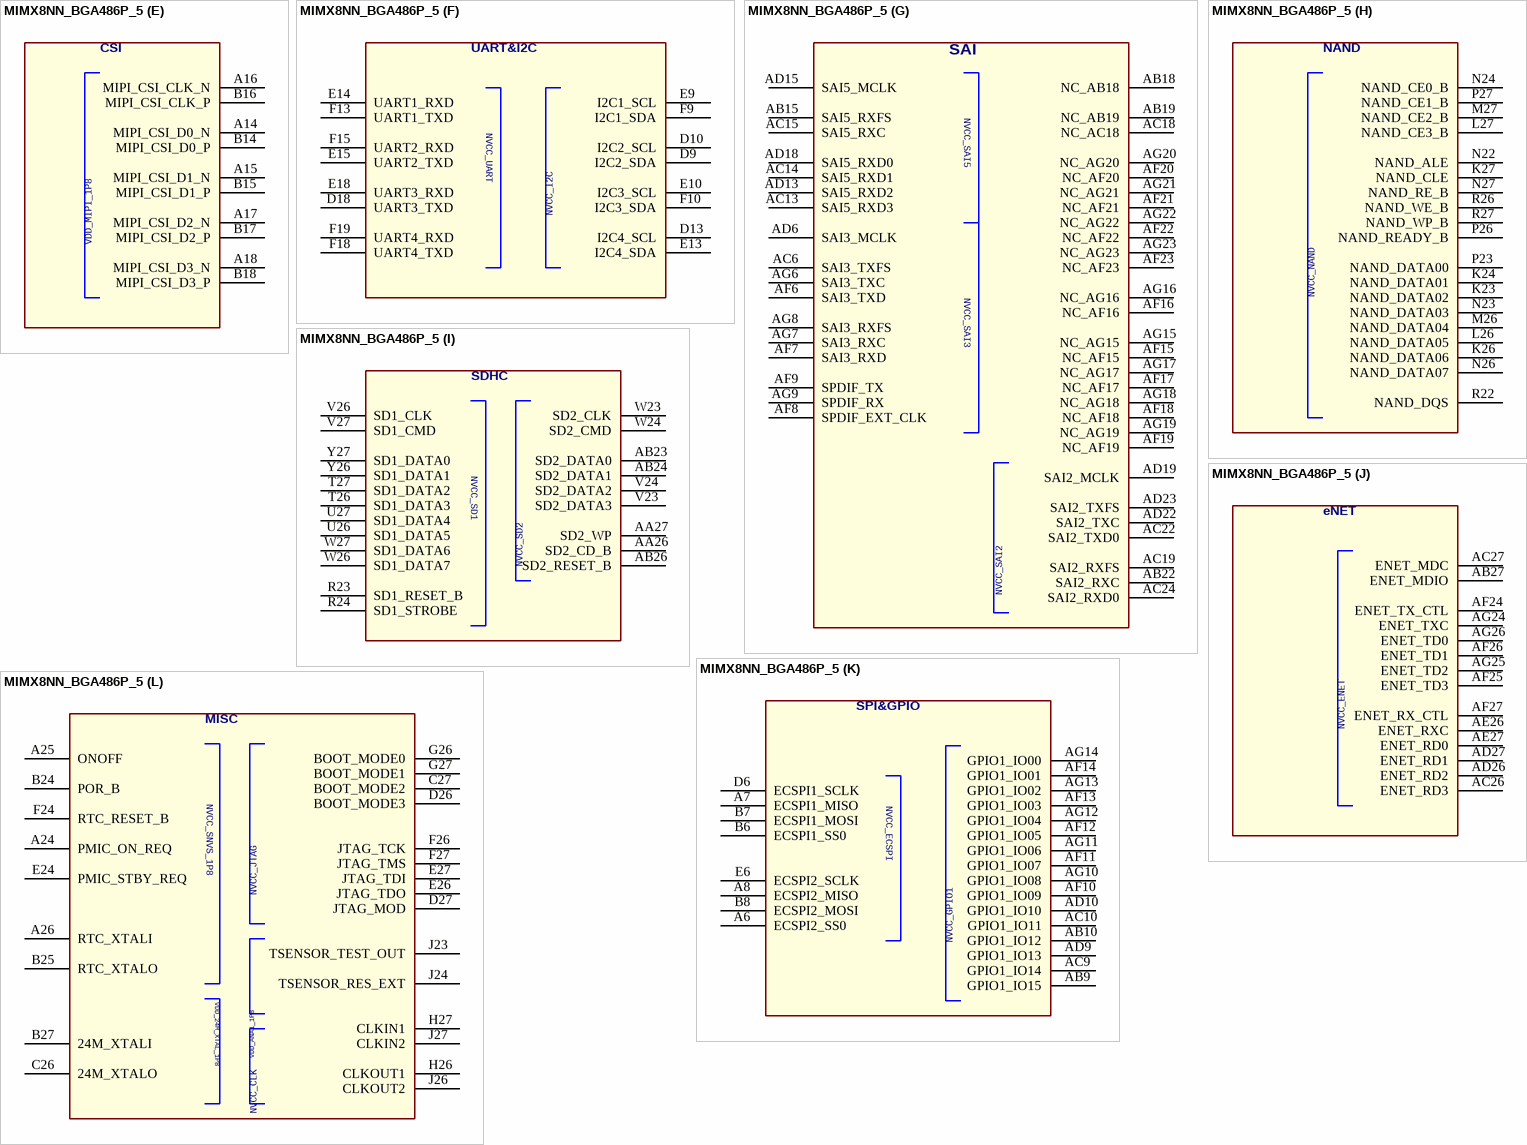
[diagram p16: symbol MIMX8NN_BGA486P_5]

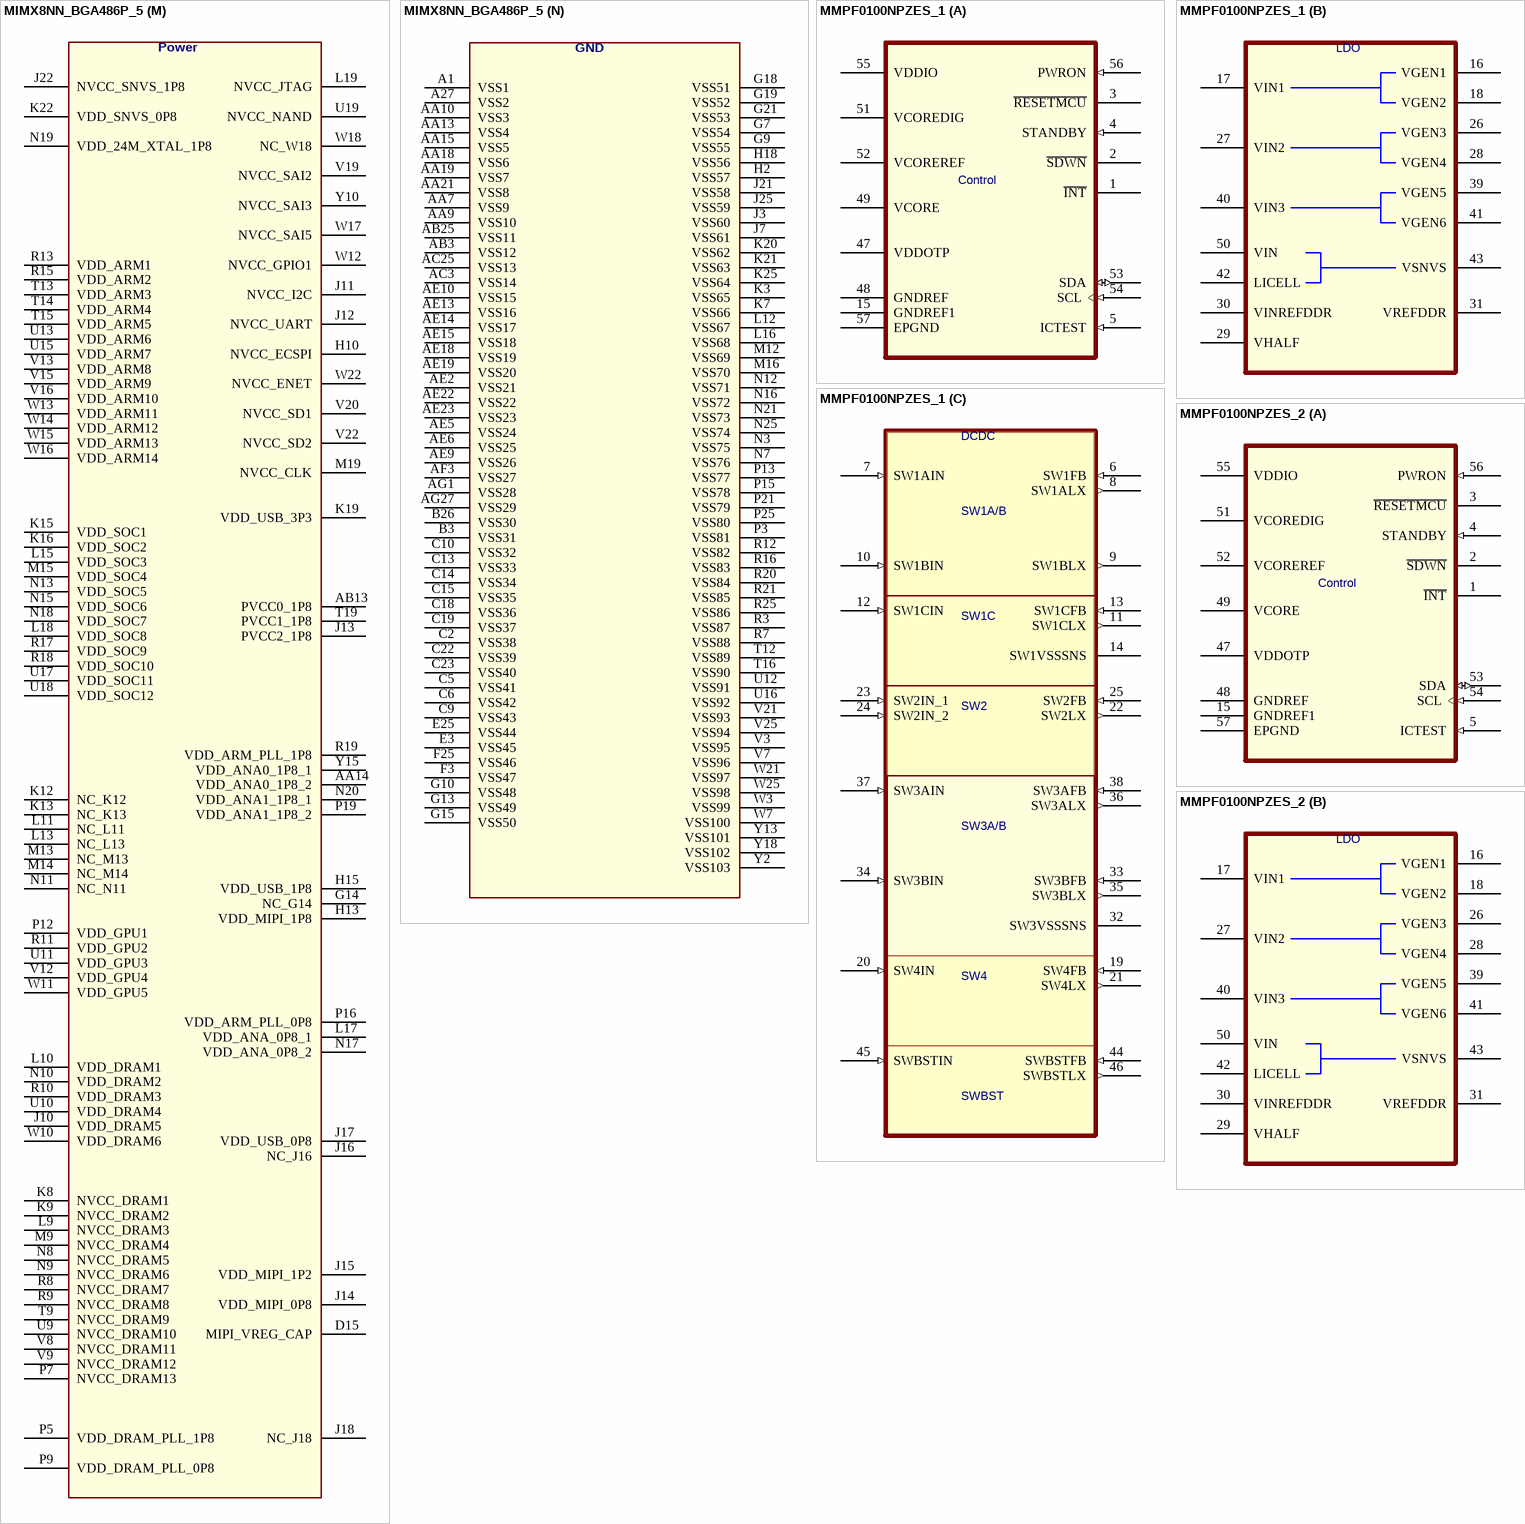
[diagram p17: symbols MIMX8NN_BGA486P_5 to MMPF0100NPZES_2]

## MIMX8NN_BGA486P_5
designator U?
CLASS: IC
part A pins: A2 DRAM_DQS0_P, A3 DRAM_DQ06, A4 DRAM_DM0, A5 DRAM_DQ00, AA1 NC_AA1, AA2 NC_AA2, AB1 NC_AB1, AB2 NC_AB2, AB4 DRAM_AC20/CKE0_B / CK_t_B / CK_B, AB5 DRAM_AC21/CKE1_B / CK_c_B / CK#_B, AB6 DRAM_AC38/-- / CS1_n / CS1#, AC1 NC_AC1, AC2 NC_AC2, AC4 DRAM_AC30/CA2_B / A10(AP) / A10(AP), AD1 NC_AD1, AD2 NC_AD2, AD5 DRAM_AC31/CA3_B / A0 / A0, AE1 NC_AE1, AF1 NC_AF1, AF2 NC_AF2, AF4 NC_AF4, AF5 NC_AF5, AG2 NC_AG2, AG3 NC_AG3, AG4 NC_AG4, AG5 NC_AG5, B1 DRAM_DQ05, B2 DRAM_DQS0_N, B4 DRAM_DQ07, B5 DRAM_DQ01, C1 DRAM_DQ04, D1 DRAM_DQ03, D2 DRAM_DQ02, D5 DRAM_AC11/CA3_A / A8 / A8, E1 DRAM_DQ14, E2 DRAM_DQ15, E4 DRAM_AC10/CA2_A / A7 / A7, F1 DRAM_DM1, F2 DRAM_DQ08, F4 DRAM_AC00/CKE0_A / CKE0 / CKE0, F5 DRAM_AC01/CKE1_A / CKE1 / CKE1, F6 DRAM_AC06/-- / ACT_n / A15, G1 DRAM_DQS1_P, G2 DRAM_DQ09, H1 DRAM_DQS1_N, J1 DRAM_DQ10, J2 DRAM_DQ11, J4 DRAM_AC03/CS1_A / C0 / --, J5 DRAM_AC07/-- / A9 / A9, J6 DRAM_AC08/CA0_A / A12 / A12(BC#), K1 DRAM_DQ13, K2 DRAM_DQ12, K4 DRAM_AC02/CS0_A / CS0_n / CS0#, K5 DRAM_AC14/ -- / A4 / A4, K6 DRAM_AC09/CA1_A / A11 / A11, L1 DRAM_AC05/CK_c_A / BG1 / A14, L2 DRAM_AC04/CK_t_A / BG0 / BA2, M1 DRAM_AC16/-- / CK_t_A / CK_A, M2 DRAM_AC17/-- / CK_c_A / CK#_A, N1 DRAM_AC26/-- / BA1 / BA1, N2 DRAM_AC19/MTEST / MTEST / MTEST, N4 DRAM_AC12/CA4_A / A6 / A6, N5 DRAM_AC13/CA5_A / A5 / A5, N6 DRAM_AC15/-- / A3 / A3, P1 DRAM_VREF, P2 DRAM_ZN, R1 DRAM_RESET_N, R2 DRAM_ALERT_N, R4 DRAM_AC32/CA4_B / C2 / --, R5 DRAM_AC33/CA5_B/CAS_n(A15)/CAS#, R6 DRAM_AC27/-- / PARITY / --, T1 DRAM_AC34/ -- /WE_n(A14)/WE#, T2 DRAM_AC35/-- / RAS_n(A16) / RAS#, U1 DRAM_AC25/CK_c_B / A1 / A1, U2 DRAM_AC24/CK_t_B / A2 / A2, V1 NC_V1, V2 NC_V2, V4 DRAM_AC23/CS0_B / -- / --, V5 DRAM_AC36/-- / ODT0 / ODT0, V6 DRAM_AC29/CA1_B / BA0 / BA0, W1 NC_W1, W2 NC_W2, W4 DRAM_AC22/CS1_B / -- / --, W5 DRAM_AC37/-- / ODT1 / ODT1, W6 DRAM_AC28/CA0_B / A13 / A13, Y1 NC_Y1
part B pins: A22 USB1_DN, A23 NC_A23, B22 USB1_DP, B23 NC_B23, D22 USB1_ID, D23 NC_D23, E19 USB1_TXRTUNE, E22 NC_E22, F22 USB1_VBUS, F23 NC_F23
part C pins: A19 NC_A19, A20 NC_A20, A21 NC_A21, B19 NC_B19, B20 NC_B20, B21 NC_B21, D19 NC_D19
part D pins: A9 MIPI_DSI_D0_N, A10 MIPI_DSI_D1_N, A11 MIPI_DSI_CLK_N, A12 MIPI_DSI_D2_N, A13 MIPI_DSI_D3_N, B9 MIPI_DSI_D0_P, B10 MIPI_DSI_D1_P, B11 MIPI_DSI_CLK_P, B12 MIPI_DSI_D2_P, B13 MIPI_DSI_D3_P
part E pins: A14 MIPI_CSI_D0_N, A15 MIPI_CSI_D1_N, A16 MIPI_CSI_CLK_N, A17 MIPI_CSI_D2_N, A18 MIPI_CSI_D3_N, B14 MIPI_CSI_D0_P, B15 MIPI_CSI_D1_P, B16 MIPI_CSI_CLK_P, B17 MIPI_CSI_D2_P, B18 MIPI_CSI_D3_P
part F pins: D9 I2C2_SDA, D10 I2C2_SCL, D13 I2C4_SCL, D18 UART3_TXD, E9 I2C1_SCL, E10 I2C3_SCL, E13 I2C4_SDA, E14 UART1_RXD, E15 UART2_TXD, E18 UART3_RXD, F9 I2C1_SDA, F10 I2C3_SDA, F13 UART1_TXD, F15 UART2_RXD, F18 UART4_TXD, F19 UART4_RXD
part G pins: AB15 SAI5_RXFS, AB18 NC_AB18, AB19 NC_AB19, AB22 SAI2_RXC, AC6 SAI3_TXFS, AC13 SAI5_RXD3, AC14 SAI5_RXD1, AC15 SAI5_RXC, AC18 NC_AC18, AC19 SAI2_RXFS, AC22 SAI2_TXD0, AC24 SAI2_RXD0, AD6 SAI3_MCLK, AD13 SAI5_RXD2, AD15 SAI5_MCLK, AD18 SAI5_RXD0, AD19 SAI2_MCLK, AD22 SAI2_TXC, AD23 SAI2_TXFS, AF6 SAI3_TXD, AF7 SAI3_RXD, AF8 SPDIF_EXT_CLK, AF9 SPDIF_TX, AF15 NC_AF15, AF16 NC_AF16, AF17 NC_AF17, AF18 NC_AF18, AF19 NC_AF19, AF20 NC_AF20, AF21 NC_AF21, AF22 NC_AF22, AF23 NC_AF23, AG6 SAI3_TXC, AG7 SAI3_RXC, AG8 SAI3_RXFS, AG9 SPDIF_RX, AG15 NC_AG15, AG16 NC_AG16, AG17 NC_AG17, AG18 NC_AG18, AG19 NC_AG19, AG20 NC_AG20, AG21 NC_AG21, AG22 NC_AG22, AG23 NC_AG23
part H pins: K23 NAND_DATA02, K24 NAND_DATA01, K26 NAND_DATA06, K27 NAND_CLE, L26 NAND_DATA05, L27 NAND_CE3_B, M26 NAND_DATA04, M27 NAND_CE2_B, N22 NAND_ALE, N23 NAND_DATA03, N24 NAND_CE0_B, N26 NAND_DATA07, N27 NAND_RE_B, P23 NAND_DATA00, P26 NAND_READY_B, P27 NAND_CE1_B, R22 NAND_DQS, R26 NAND_WE_B, R27 NAND_WP_B
part I pins: AA26 SD2_CD_B, AA27 SD2_WP, AB23 SD2_DATA0, AB24 SD2_DATA1, AB26 SD2_RESET_B, R23 SD1_RESET_B, R24 SD1_STROBE, T26 SD1_DATA3, T27 SD1_DATA2, U26 SD1_DATA5, U27 SD1_DATA4, V23 SD2_DATA3, V24 SD2_DATA2, V26 SD1_CLK, V27 SD1_CMD, W23 SD2_CLK, W24 SD2_CMD, W26 SD1_DATA7, W27 SD1_DATA6, Y26 SD1_DATA1, Y27 SD1_DATA0
part J pins: AB27 ENET_MDIO, AC26 ENET_RD3, AC27 ENET_MDC, AD26 ENET_RD2, AD27 ENET_RD1, AE26 ENET_RXC, AE27 ENET_RD0, AF24 ENET_TX_CTL, AF25 ENET_TD3, AF26 ENET_TD1, AF27 ENET_RX_CTL, AG24 ENET_TXC, AG25 ENET_TD2, AG26 ENET_TD0
part K pins: A6 ECSPI2_SS0, A7 ECSPI1_MISO, A8 ECSPI2_MISO, AB9 GPIO1_IO15, AB10 GPIO1_IO12, AC9 GPIO1_IO14, AC10 GPIO1_IO11, AD9 GPIO1_IO13, AD10 GPIO1_IO10, AF10 GPIO1_IO09, AF11 GPIO1_IO07, AF12 GPIO1_IO05, AF13 GPIO1_IO03, AF14 GPIO1_IO01, AG10 GPIO1_IO08, AG11 GPIO1_IO06, AG12 GPIO1_IO04, AG13 GPIO1_IO02, AG14 GPIO1_IO00, B6 ECSPI1_SS0, B7 ECSPI1_MOSI, B8 ECSPI2_MOSI, D6 ECSPI1_SCLK, E6 ECSPI2_SCLK
part L pins: A24 PMIC_ON_REQ, A25 ONOFF, A26 RTC_XTALI, B24 POR_B, B25 RTC_XTALO, B27 24M_XTALI, C26 24M_XTALO, C27 BOOT_MODE2, D26 BOOT_MODE3, D27 JTAG_MOD, E24 PMIC_STBY_REQ, E26 JTAG_TDO, E27 JTAG_TDI, F24 RTC_RESET_B, F26 JTAG_TCK, F27 JTAG_TMS, G26 BOOT_MODE0, G27 BOOT_MODE1, H26 CLKOUT1, H27 CLKIN1, J23 TSENSOR_TEST_OUT, J24 TSENSOR_RES_EXT, J26 CLKOUT2, J27 CLKIN2
part M pins: AA14 VDD_ANA0_1P8_2 (power), AB13 PVCC0_1P8 (power), D15 MIPI_VREG_CAP, G14 NC_G14, H10 NVCC_ECSPI (power), H13 VDD_MIPI_1P8 (power), H15 VDD_USB_1P8 (power), J10 VDD_DRAM5 (power), J11 NVCC_I2C (power), J12 NVCC_UART (power), J13 PVCC2_1P8 (power), J14 VDD_MIPI_0P8 (power), J15 VDD_MIPI_1P2 (power), J16 NC_J16, J17 VDD_USB_0P8 (power), J18 NC_J18, J22 NVCC_SNVS_1P8 (power), K8 NVCC_DRAM1 (power), K9 NVCC_DRAM2 (power), K12 NC_K12, K13 NC_K13, K15 VDD_SOC1 (power), K16 VDD_SOC2 (power), K19 VDD_USB_3P3 (power), K22 VDD_SNVS_0P8 (power), L9 NVCC_DRAM3 (power), L10 VDD_DRAM1 (power), L11 NC_L11, L13 NC_L13, L15 VDD_SOC3 (power), L17 VDD_ANA_0P8_1 (power), L18 VDD_SOC8 (power), L19 NVCC_JTAG (power), M9 NVCC_DRAM4 (power), M13 NC_M13, M14 NC_M14, M15 VDD_SOC4 (power), M19 NVCC_CLK (power), N8 NVCC_DRAM5 (power), N9 NVCC_DRAM6 (power), N10 VDD_DRAM2 (power), N11 NC_N11, N13 VDD_SOC5 (power), N15 VDD_SOC6 (power), N17 VDD_ANA_0P8_2 (power), N18 VDD_SOC7 (power), N19 VDD_24M_XTAL_1P8 (power), N20 VDD_ANA1_1P8_1 (power), P5 VDD_DRAM_PLL_1P8 (power), P7 NVCC_DRAM13, P9 VDD_DRAM_PLL_0P8 (power), P12 VDD_GPU1 (power), P16 VDD_ARM_PLL_0P8 (power), P19 VDD_ANA1_1P8_2 (power), R8 NVCC_DRAM7 (power), R9 NVCC_DRAM8 (power), R10 VDD_DRAM3 (power), R11 VDD_GPU2 (power), R13 VDD_ARM1 (power), R15 VDD_ARM2 (power), R17 VDD_SOC9 (power), R18 VDD_SOC10 (power), R19 VDD_ARM_PLL_1P8 (power), T9 NVCC_DRAM9 (power), T13 VDD_ARM3 (power), T14 VDD_ARM4 (power), T15 VDD_ARM5 (power), T19 PVCC1_1P8 (power), U9 NVCC_DRAM10 (power), U10 VDD_DRAM4 (power), U11 VDD_GPU3 (power), U13 VDD_ARM6 (power), U15 VDD_ARM7 (power), U17 VDD_SOC11 (power), U18 VDD_SOC12 (power), U19 NVCC_NAND (power), V8 NVCC_DRAM11 (power), V9 NVCC_DRAM12 (power), V12 VDD_GPU4 (power), V13 VDD_ARM8 (power), V15 VDD_ARM9 (power), V16 VDD_ARM10 (power), V19 NVCC_SAI2 (power), V20 NVCC_SD1 (power), V22 NVCC_SD2 (power), W10 VDD_DRAM6 (power), W11 VDD_GPU5 (power), W12 NVCC_GPIO1 (power), W13 VDD_ARM11 (power), W14 VDD_ARM12 (power), W15 VDD_ARM13 (power), W16 VDD_ARM14 (power), W17 NVCC_SAI5 (power), W18 NC_W18 (power), W22 NVCC_ENET (power), Y10 NVCC_SAI3 (power), Y15 VDD_ANA0_1P8_1 (power)
part N pins: A1 VSS1 (power), A27 VSS2 (power), AA7 VSS9 (power), AA9 VSS10 (power), AA10 VSS3 (power), AA13 VSS4 (power), AA15 VSS5 (power), AA18 VSS6 (power), AA19 VSS7 (power), AA21 VSS8 (power), AB3 VSS12 (power), AB25 VSS11 (power), AC3 VSS14 (power), AC25 VSS13 (power), AE2 VSS21 (power), AE5 VSS24 (power), AE6 VSS25 (power), AE9 VSS26 (power), AE10 VSS15 (power), AE13 VSS16 (power), AE14 VSS17 (power), AE15 VSS18 (power), AE18 VSS19 (power), AE19 VSS20 (power), AE22 VSS22 (power), AE23 VSS23 (power), AF3 VSS27 (power), AG1 VSS28 (power), AG27 VSS29 (power), B3 VSS31 (power), B26 VSS30 (power), C2 VSS38 (power), C5 VSS41 (power), C6 VSS42 (power), C9 VSS43 (power), C10 VSS32 (power), C13 VSS33 (power), C14 VSS34 (power), C15 VSS35 (power), C18 VSS36 (power), C19 VSS37 (power), C22 VSS39 (power), C23 VSS40 (power), E3 VSS45 (power), E25 VSS44 (power), F3 VSS47 (power), F25 VSS46 (power), G7 VSS54 (power), G9 VSS55 (power), G10 VSS48 (power), G13 VSS49 (power), G15 VSS50 (power), G18 VSS51 (power), G19 VSS52 (power), G21 VSS53 (power), H2 VSS57 (power), H18 VSS56 (power), J3 VSS60 (power), J7 VSS61 (power), J21 VSS58 (power), J25 VSS59 (power), K3 VSS65 (power), K7 VSS66 (power), K20 VSS62 (power), K21 VSS63 (power), K25 VSS64 (power), L12 VSS67 (power), L16 VSS68 (power), M12 VSS69 (power), M16 VSS70 (power), N3 VSS75 (power), N7 VSS76 (power), N12 VSS71 (power), N16 VSS72 (power), N21 VSS73 (power), N25 VSS74 (power), P3 VSS81 (power), P13 VSS77 (power), P15 VSS78 (power), P21 VSS79 (power), P25 VSS80 (power), R3 VSS87 (power), R7 VSS88 (power), R12 VSS82 (power), R16 VSS83 (power), R20 VSS84 (power), R21 VSS85 (power), R25 VSS86 (power), T12 VSS89 (power), T16 VSS90 (power), U12 VSS91 (power), U16 VSS92 (power), V3 VSS95 (power), V7 VSS96 (power), V21 VSS93 (power), V25 VSS94 (power), W3 VSS99 (power), W7 VSS100 (power), W21 VSS97 (power), W25 VSS98 (power), Y2 VSS103 (power), Y13 VSS101 (power), Y18 VSS102 (power)
part A text: DDR; PAD/(LPDDR4/DDR4/DDR3)
part B text: USB
part D text: DSI
part E text: CSI
part F text: UART&I2C
part G text: SAI
part H text: NAND
part I text: SDHC
part J text: eNET
part K text: SPI&GPIO
part L text: MISC; VDD_ANA1_1P8
part M text: Power
part N text: GND

## MMPF0100NPZES_1
designator U?
CLASS: IC
footprint QFN56_0P5_8X8_EP4P1X4P4
part A pins: 1 ~{INT} (oc), 2 ~{SDWN} (oc), 3 ~{RESETMCU} (oc), 4 STANDBY (in), 5 ICTEST (in), 15 GNDREF1 (power), 47 VDDOTP (power), 48 GNDREF (power), 49 VCORE (power), 51 VCOREDIG (power), 52 VCOREREF (power), 53 SDA (io), 54 SCL (in), 55 VDDIO (power), 56 PWRON (in), 57 EPGND (power)
part B pins: 16 VGEN1 (power), 17 VIN1 (power), 18 VGEN2 (power), 26 VGEN3 (power), 27 VIN2 (power), 28 VGEN4 (power), 29 VHALF (power), 30 VINREFDDR (power), 31 VREFDDR (power), 39 VGEN5 (power), 40 VIN3 (power), 41 VGEN6 (power), 42 LICELL (power), 43 VSNVS (power), 50 VIN (power)
part C pins: 6 SW1FB (in), 7 SW1AIN (in), 8 SW1ALX (out), 9 SW1BLX (out), 10 SW1BIN (in), 11 SW1CLX (out), 12 SW1CIN (in), 13 SW1CFB (in), 14 SW1VSSSNS (power), 19 SW4FB (in), 20 SW4IN (in), 21 SW4LX (out), 22 SW2LX (out), 23 SW2IN_1 (in), 24 SW2IN_2 (in), 25 SW2FB (in), 32 SW3VSSSNS (power), 33 SW3BFB (in), 34 SW3BIN (in), 35 SW3BLX (out), 36 SW3ALX (out), 37 SW3AIN (in), 38 SW3AFB (in), 44 SWBSTFB (in), 45 SWBSTIN (in), 46 SWBSTLX (out)
part A text: Control
part B text: LDO
part C text: DCDC; SW1A/B; SW1C; SW2; SW3A/B; SW4; SWBST

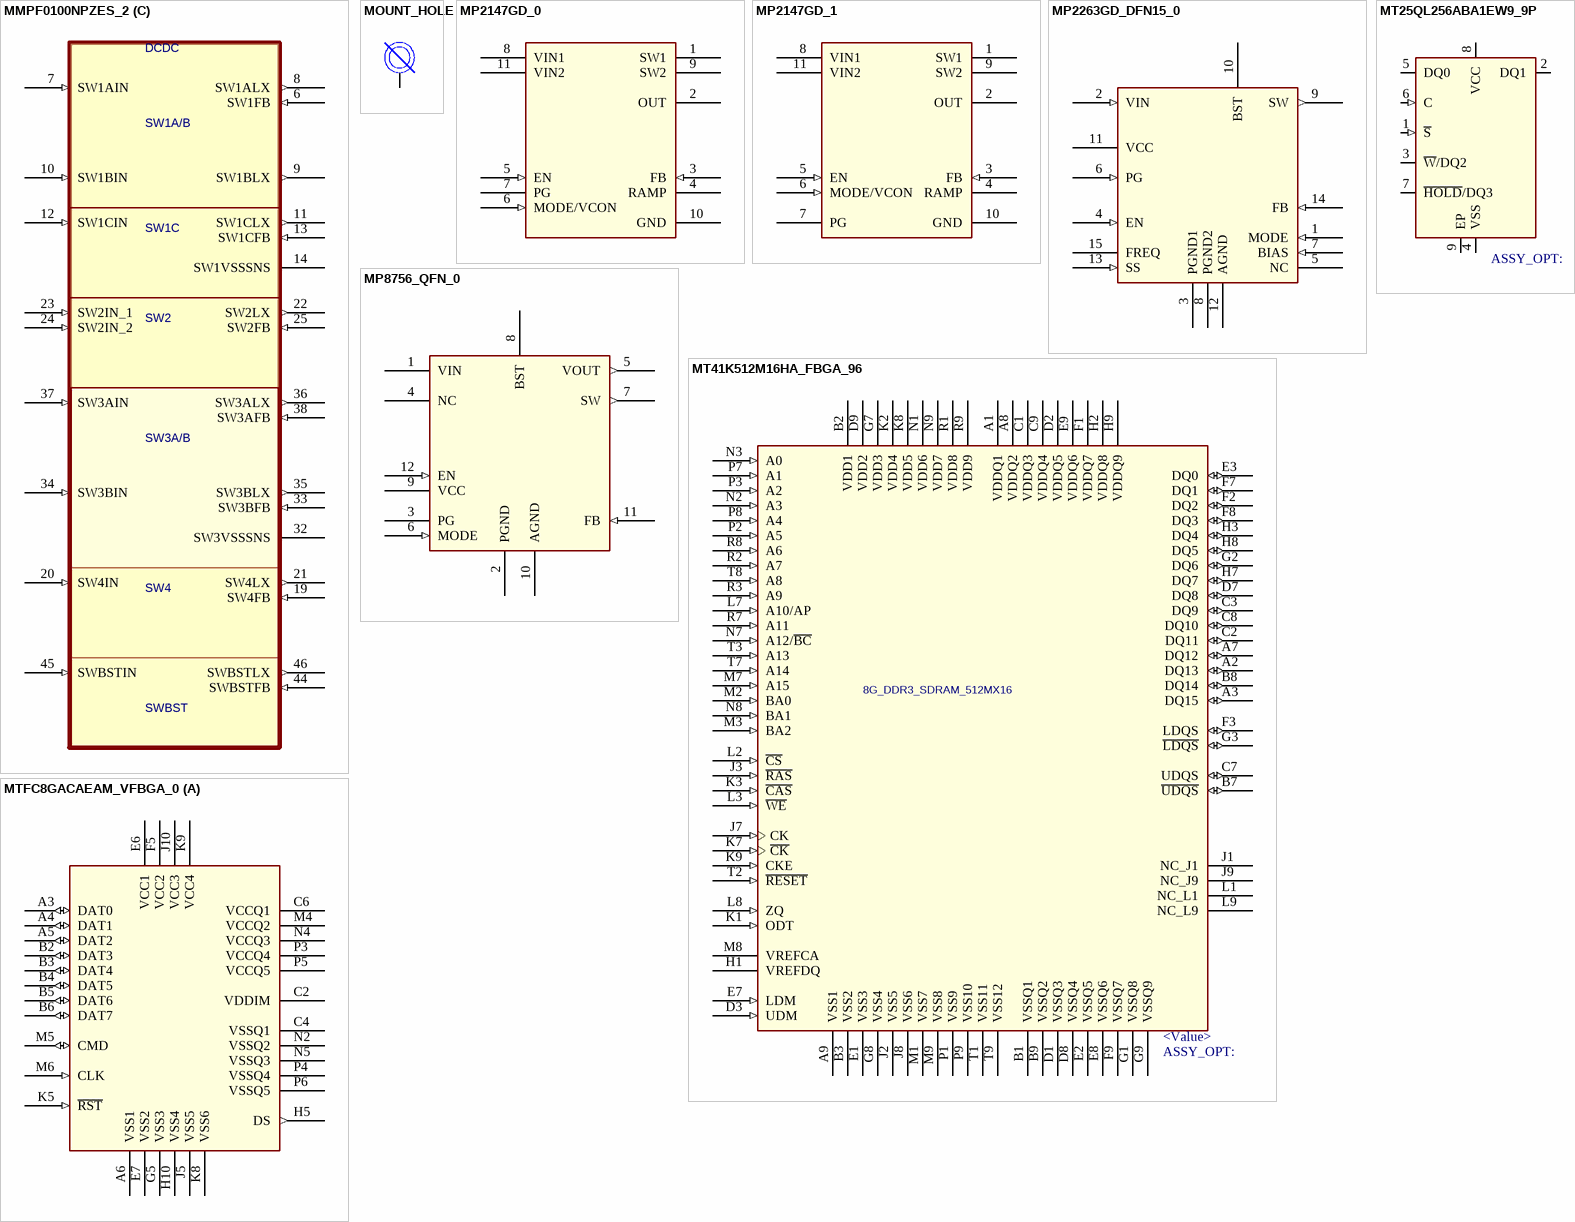
[diagram p18: symbols MMPF0100NPZES_2 to MTFC8GACAEAM_VFBGA_0]

## MMPF0100NPZES_2
designator U?
CLASS: IC
footprint QFN56_0P5_8X8_EP4P1X4P4
part A pins: 1 ~{INT} (oc), 2 ~{SDWN} (oc), 3 ~{RESETMCU} (oc), 4 STANDBY (in), 5 ICTEST (in), 15 GNDREF1 (power), 47 VDDOTP (power), 48 GNDREF (power), 49 VCORE (power), 51 VCOREDIG (power), 52 VCOREREF (power), 53 SDA (io), 54 SCL (in), 55 VDDIO (power), 56 PWRON (in), 57 EPGND (power)
part B pins: 16 VGEN1 (power), 17 VIN1 (power), 18 VGEN2 (power), 26 VGEN3 (power), 27 VIN2 (power), 28 VGEN4 (power), 29 VHALF (power), 30 VINREFDDR (power), 31 VREFDDR (power), 39 VGEN5 (power), 40 VIN3 (power), 41 VGEN6 (power), 42 LICELL (power), 43 VSNVS (power), 50 VIN (power)
part C pins: 6 SW1FB (in), 7 SW1AIN (in), 8 SW1ALX (out), 9 SW1BLX (out), 10 SW1BIN (in), 11 SW1CLX (out), 12 SW1CIN (in), 13 SW1CFB (in), 14 SW1VSSSNS (power), 19 SW4FB (in), 20 SW4IN (in), 21 SW4LX (out), 22 SW2LX (out), 23 SW2IN_1 (in), 24 SW2IN_2 (in), 25 SW2FB (in), 32 SW3VSSSNS (power), 33 SW3BFB (in), 34 SW3BIN (in), 35 SW3BLX (out), 36 SW3ALX (out), 37 SW3AIN (in), 38 SW3AFB (in), 44 SWBSTFB (in), 45 SWBSTIN (in), 46 SWBSTLX (out)
part A text: Control
part B text: LDO
part C text: DCDC; SW1A/B; SW1C; SW2; SW3A/B; SW4; SWBST

## MOUNT_HOLE
designator BH?
CLASS: IC
pins: 1

## MP2147GD_0
designator U?
CLASS: IC
pins: 1 SW1 (power), 2 OUT (power), 3 FB (in), 4 RAMP, 5 EN (in), 6 MODE/VCON (in), 7 PG (oc), 8 VIN1 (power), 9 SW2 (power), 10 GND (power), 11 VIN2 (power)

## MP2147GD_1
designator U?
CLASS: IC
pins: 1 SW1 (power), 2 OUT (power), 3 FB (in), 4 RAMP, 5 EN (in), 6 MODE/VCON (in), 7 PG (oc), 8 VIN1 (power), 9 SW2 (power), 10 GND (power), 11 VIN2 (power)

## MP2263GD_DFN15_0
designator U?
CLASS: IC
pins: 1 MODE (in), 2 VIN (in), 3 PGND1 (power), 4 EN (in), 5 NC, 6 PG (in), 7 BIAS (in), 8 PGND2 (power), 9 SW (out), 10 BST (power), 11 VCC (power), 12 AGND (power), 13 SS (in), 14 FB (in), 15 FREQ

## MP8756_QFN_0
designator U?
CLASS: IC
pins: 1 VIN (power), 2 PGND (power), 3 PG (oc), 4 NC, 5 VOUT (out), 6 MODE (in), 7 SW (out), 8 BST, 9 VCC (power), 10 AGND (power), 11 FB (in), 12 EN (in)

## MT25QL256ABA1EW9_9P
designator U?
CLASS: IC
pins: 1 ~{S} (in), 2 DQ1 (io), 3 ~{W}/DQ2 (io), 4 VSS (power), 5 DQ0 (io), 6 C (in), 7 ~{HOLD}/DQ3 (io), 8 VCC (power), 9 EP (power)

## MT41K512M16HA_FBGA_96
designator U?, comment <Value>
CLASS: IC
pins: A1 VDDQ1 (power), A2 DQ13 (io), A3 DQ15 (io), A7 DQ12 (io), A8 VDDQ2 (power), A9 VSS1 (power), B1 VSSQ1 (power), B2 VDD1 (power), B3 VSS2 (power), B7 ~{UDQS} (io), B8 DQ14 (io), B9 VSSQ2 (power), C1 VDDQ3 (power), C2 DQ11 (io), C3 DQ9 (io), C7 UDQS (io), C8 DQ10 (io), C9 VDDQ4 (power), D1 VSSQ3 (power), D2 VDDQ5 (power), D3 UDM (in), D7 DQ8 (io), D8 VSSQ4 (power), D9 VDD2 (power), E1 VSS3 (power), E2 VSSQ5 (power), E3 DQ0 (io), E7 LDM (in), E8 VSSQ6 (power), E9 VDDQ6 (power), F1 VDDQ7 (power), F2 DQ2 (io), F3 LDQS (io), F7 DQ1 (io), F8 DQ3 (io), F9 VSSQ7 (power), G1 VSSQ8 (power), G2 DQ6 (io), G3 ~{LDQS} (io), G7 VDD3 (power), G8 VSS4 (power), G9 VSSQ9 (power), H1 VREFDQ (power), H2 VDDQ8 (power), H3 DQ4 (io), H7 DQ7 (io), H8 DQ5 (io), H9 VDDQ9 (power), J1 NC_J1, J2 VSS5 (power), J3 ~{RAS} (in), J7 CK (in), J8 VSS6 (power), J9 NC_J9, K1 ODT (in), K2 VDD4 (power), K3 ~{CAS} (in), K7 ~{CK} (in), K8 VDD5 (power), K9 CKE (in), L1 NC_L1, L2 ~{CS} (in), L3 ~{WE} (in), L7 A10/AP (in), L8 ZQ (in), L9 NC_L9, M1 VSS7 (power), M2 BA0 (in), M3 BA2 (in), M7 A15 (in), M8 VREFCA (power), M9 VSS8 (power), N1 VDD6 (power), N2 A3 (in), N3 A0 (in), N7 A12/~{BC} (in), N8 BA1 (in), N9 VDD7 (power), P1 VSS9 (power), P2 A5 (in), P3 A2 (in), P7 A1 (in), P8 A4 (in), P9 VSS10 (power), R1 VDD8 (power), R2 A7 (in), R3 A9 (in), R7 A11 (in), R8 A6 (in), R9 VDD9 (power), T1 VSS11 (power), T2 ~{RESET} (in), T3 A13 (in), T7 A14 (in), T8 A8 (in), T9 VSS12 (power)
text: 8G_DDR3_SDRAM_512MX16

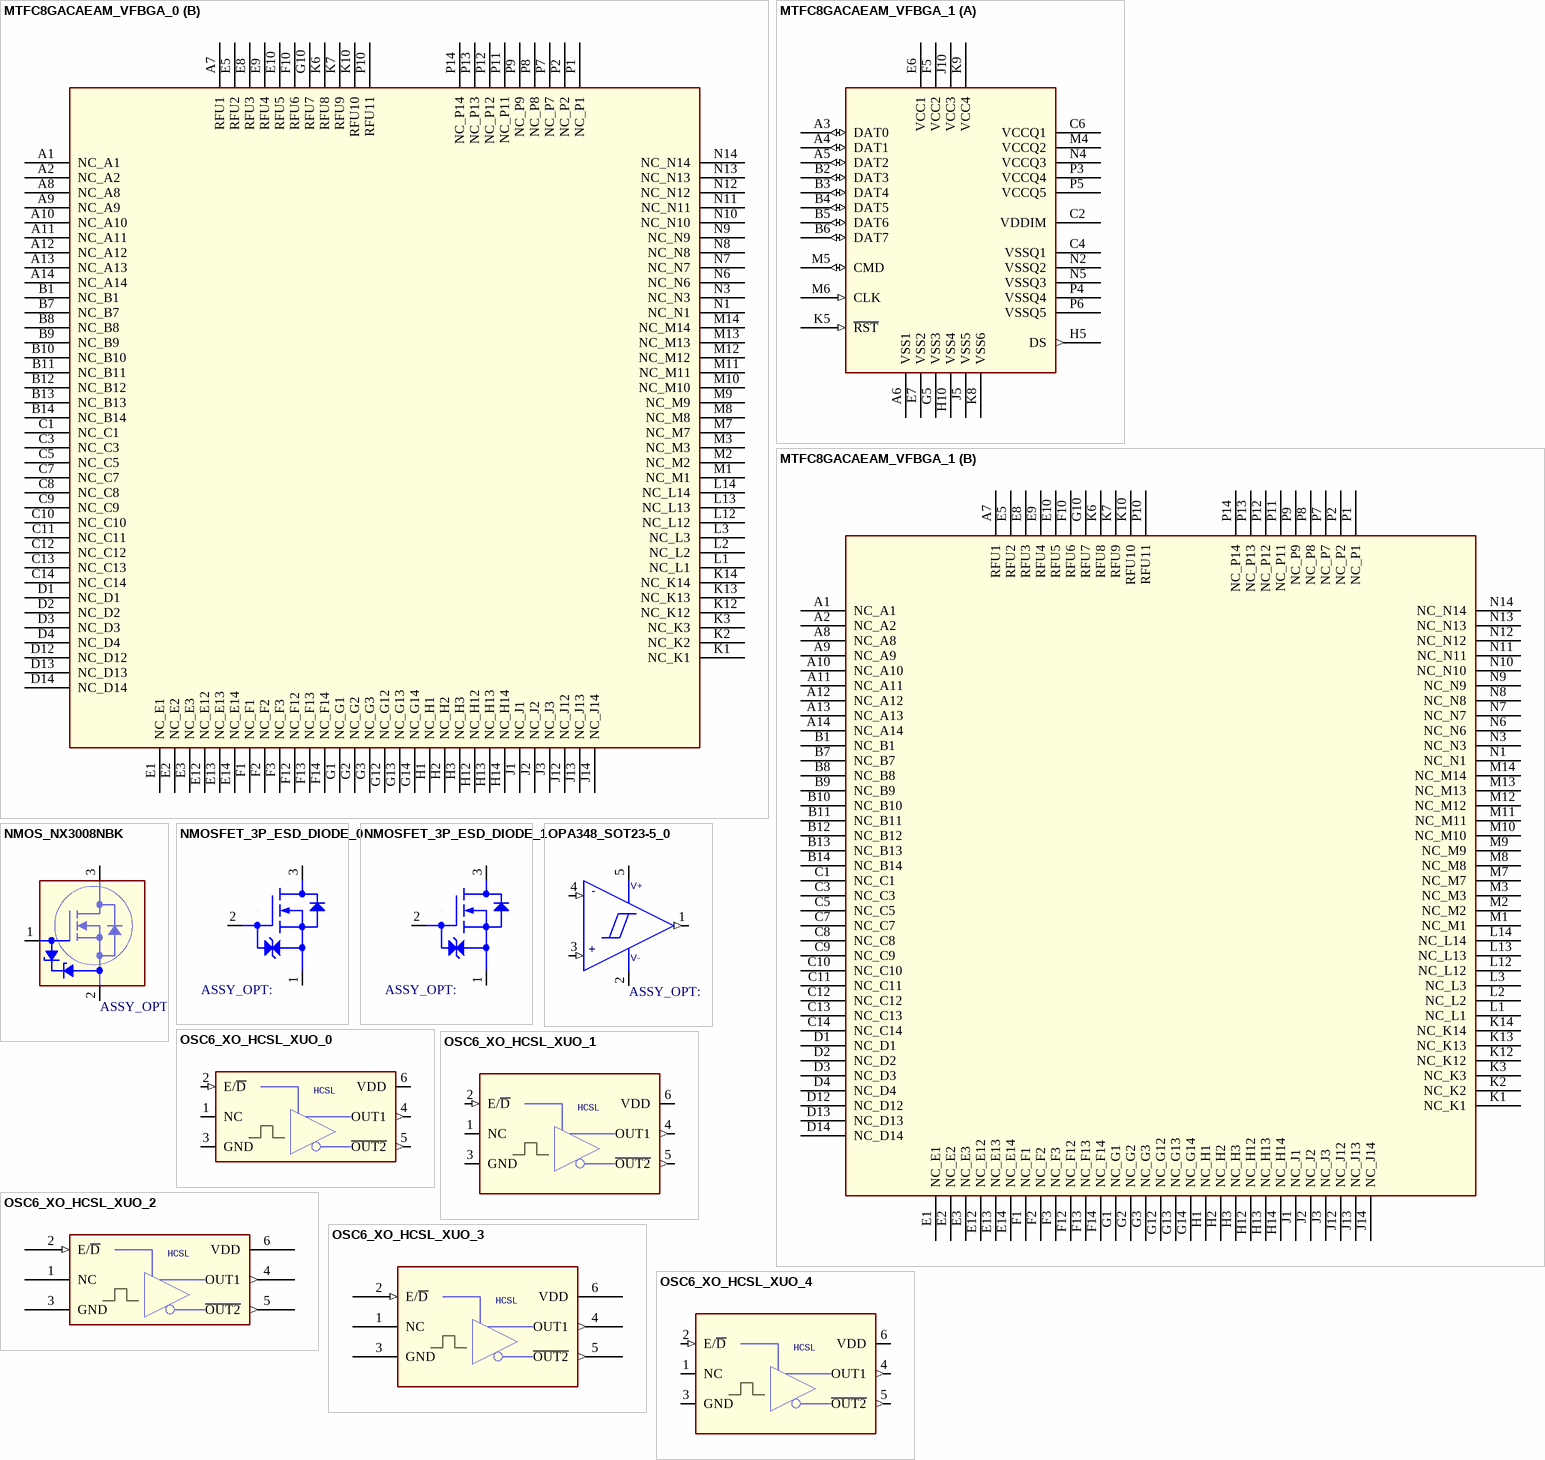
[diagram p19: symbols MTFC8GACAEAM_VFBGA_0 to OSC6_XO_HCSL_XUO_4]

## MTFC8GACAEAM_VFBGA_0
designator U?
CLASS: IC
footprint WFBGA153
part A pins: A3 DAT0 (io), A4 DAT1 (io), A5 DAT2 (io), A6 VSS1 (power), B2 DAT3 (io), B3 DAT4 (io), B4 DAT5 (io), B5 DAT6 (io), B6 DAT7 (io), C2 VDDIM (power), C4 VSSQ1 (power), C6 VCCQ1 (power), E6 VCC1 (power), E7 VSS2 (power), F5 VCC2 (power), G5 VSS3 (power), H5 DS (out), H10 VSS4 (power), J5 VSS5 (power), J10 VCC3 (power), K5 ~{RST} (in), K8 VSS6 (power), K9 VCC4 (power), M4 VCCQ2 (power), M5 CMD (io), M6 CLK (in), N2 VSSQ2 (power), N4 VCCQ3 (power), N5 VSSQ3 (power), P3 VCCQ4 (power), P4 VSSQ4 (power), P5 VCCQ5 (power), P6 VSSQ5 (power)
part B pins: A1 NC_A1, A2 NC_A2, A7 RFU1, A8 NC_A8, A9 NC_A9, A10 NC_A10, A11 NC_A11, A12 NC_A12, A13 NC_A13, A14 NC_A14, B1 NC_B1, B7 NC_B7, B8 NC_B8, B9 NC_B9, B10 NC_B10, B11 NC_B11, B12 NC_B12, B13 NC_B13, B14 NC_B14, C1 NC_C1, C3 NC_C3, C5 NC_C5, C7 NC_C7, C8 NC_C8, C9 NC_C9, C10 NC_C10, C11 NC_C11, C12 NC_C12, C13 NC_C13, C14 NC_C14, D1 NC_D1, D2 NC_D2, D3 NC_D3, D4 NC_D4, D12 NC_D12, D13 NC_D13, D14 NC_D14, E1 NC_E1, E2 NC_E2, E3 NC_E3, E5 RFU2, E8 RFU3, E9 RFU4, E10 RFU5, E12 NC_E12, E13 NC_E13, E14 NC_E14, F1 NC_F1, F2 NC_F2, F3 NC_F3, F10 RFU6, F12 NC_F12, F13 NC_F13, F14 NC_F14, G1 NC_G1, G2 NC_G2, G3 NC_G3, G10 RFU7, G12 NC_G12, G13 NC_G13, G14 NC_G14, H1 NC_H1, H2 NC_H2, H3 NC_H3, H12 NC_H12, H13 NC_H13, H14 NC_H14, J1 NC_J1, J2 NC_J2, J3 NC_J3, J12 NC_J12, J13 NC_J13, J14 NC_J14, K1 NC_K1, K2 NC_K2, K3 NC_K3, K6 RFU8, K7 RFU9, K10 RFU10, K12 NC_K12, K13 NC_K13, K14 NC_K14, L1 NC_L1, L2 NC_L2, L3 NC_L3, L12 NC_L12, L13 NC_L13, L14 NC_L14, M1 NC_M1, M2 NC_M2, M3 NC_M3, M7 NC_M7, M8 NC_M8, M9 NC_M9, M10 NC_M10, M11 NC_M11, M12 NC_M12, M13 NC_M13, M14 NC_M14, N1 NC_N1, N3 NC_N3, N6 NC_N6, N7 NC_N7, N8 NC_N8, N9 NC_N9, N10 NC_N10, N11 NC_N11, N12 NC_N12, N13 NC_N13, N14 NC_N14, P1 NC_P1, P2 NC_P2, P7 NC_P7, P8 NC_P8, P9 NC_P9, P10 RFU11, P11 NC_P11, P12 NC_P12, P13 NC_P13, P14 NC_P14

## MTFC8GACAEAM_VFBGA_1
designator U?
CLASS: IC
footprint WFBGA153
part A pins: A3 DAT0 (io), A4 DAT1 (io), A5 DAT2 (io), A6 VSS1 (power), B2 DAT3 (io), B3 DAT4 (io), B4 DAT5 (io), B5 DAT6 (io), B6 DAT7 (io), C2 VDDIM (power), C4 VSSQ1 (power), C6 VCCQ1 (power), E6 VCC1 (power), E7 VSS2 (power), F5 VCC2 (power), G5 VSS3 (power), H5 DS (out), H10 VSS4 (power), J5 VSS5 (power), J10 VCC3 (power), K5 ~{RST} (in), K8 VSS6 (power), K9 VCC4 (power), M4 VCCQ2 (power), M5 CMD (io), M6 CLK (in), N2 VSSQ2 (power), N4 VCCQ3 (power), N5 VSSQ3 (power), P3 VCCQ4 (power), P4 VSSQ4 (power), P5 VCCQ5 (power), P6 VSSQ5 (power)
part B pins: A1 NC_A1, A2 NC_A2, A7 RFU1, A8 NC_A8, A9 NC_A9, A10 NC_A10, A11 NC_A11, A12 NC_A12, A13 NC_A13, A14 NC_A14, B1 NC_B1, B7 NC_B7, B8 NC_B8, B9 NC_B9, B10 NC_B10, B11 NC_B11, B12 NC_B12, B13 NC_B13, B14 NC_B14, C1 NC_C1, C3 NC_C3, C5 NC_C5, C7 NC_C7, C8 NC_C8, C9 NC_C9, C10 NC_C10, C11 NC_C11, C12 NC_C12, C13 NC_C13, C14 NC_C14, D1 NC_D1, D2 NC_D2, D3 NC_D3, D4 NC_D4, D12 NC_D12, D13 NC_D13, D14 NC_D14, E1 NC_E1, E2 NC_E2, E3 NC_E3, E5 RFU2, E8 RFU3, E9 RFU4, E10 RFU5, E12 NC_E12, E13 NC_E13, E14 NC_E14, F1 NC_F1, F2 NC_F2, F3 NC_F3, F10 RFU6, F12 NC_F12, F13 NC_F13, F14 NC_F14, G1 NC_G1, G2 NC_G2, G3 NC_G3, G10 RFU7, G12 NC_G12, G13 NC_G13, G14 NC_G14, H1 NC_H1, H2 NC_H2, H3 NC_H3, H12 NC_H12, H13 NC_H13, H14 NC_H14, J1 NC_J1, J2 NC_J2, J3 NC_J3, J12 NC_J12, J13 NC_J13, J14 NC_J14, K1 NC_K1, K2 NC_K2, K3 NC_K3, K6 RFU8, K7 RFU9, K10 RFU10, K12 NC_K12, K13 NC_K13, K14 NC_K14, L1 NC_L1, L2 NC_L2, L3 NC_L3, L12 NC_L12, L13 NC_L13, L14 NC_L14, M1 NC_M1, M2 NC_M2, M3 NC_M3, M7 NC_M7, M8 NC_M8, M9 NC_M9, M10 NC_M10, M11 NC_M11, M12 NC_M12, M13 NC_M13, M14 NC_M14, N1 NC_N1, N3 NC_N3, N6 NC_N6, N7 NC_N7, N8 NC_N8, N9 NC_N9, N10 NC_N10, N11 NC_N11, N12 NC_N12, N13 NC_N13, N14 NC_N14, P1 NC_P1, P2 NC_P2, P7 NC_P7, P8 NC_P8, P9 NC_P9, P10 RFU11, P11 NC_P11, P12 NC_P12, P13 NC_P13, P14 NC_P14

## NMOS_NX3008NBK
designator Q?
CLASS: IC
pins: 1 GATE, 2 SOURCE, 3 DRAIN

## NMOSFET_3P_ESD_DIODE_0
designator Q?
CLASS: IC
pins: 1 SOURCE, 2 GATE, 3 DRAIN

## NMOSFET_3P_ESD_DIODE_1
designator Q?
CLASS: IC
pins: 1 SOURCE, 2 GATE, 3 DRAIN

## OPA348_SOT23-5_0
designator U?
CLASS: IC
pins: 1 OUT (out), 2 V- (power), 3 +IN (in), 4 -IN (in), 5 V+ (power)
text: -; +

## OSC6_XO_HCSL_XUO_0
designator Y?
CLASS: IC
footprint JS6
pins: 1 NC, 2 E/~{D} (in), 3 GND (power), 4 OUT1 (out), 5 ~{OUT2} (out), 6 VDD (power)
text: HCSL

## OSC6_XO_HCSL_XUO_1
designator Y?
CLASS: IC
footprint JS6
pins: 1 NC, 2 E/~{D} (in), 3 GND (power), 4 OUT1 (out), 5 ~{OUT2} (out), 6 VDD (power)
text: HCSL

## OSC6_XO_HCSL_XUO_2
designator Y?
CLASS: IC
footprint JS6
pins: 1 NC, 2 E/~{D} (in), 3 GND (power), 4 OUT1 (out), 5 ~{OUT2} (out), 6 VDD (power)
text: HCSL

## OSC6_XO_HCSL_XUO_3
designator Y?
CLASS: IC
footprint JS6
pins: 1 NC, 2 E/~{D} (in), 3 GND (power), 4 OUT1 (out), 5 ~{OUT2} (out), 6 VDD (power)
text: HCSL

## OSC6_XO_HCSL_XUO_4
designator Y?
CLASS: IC
footprint JS6
pins: 1 NC, 2 E/~{D} (in), 3 GND (power), 4 OUT1 (out), 5 ~{OUT2} (out), 6 VDD (power)
text: HCSL

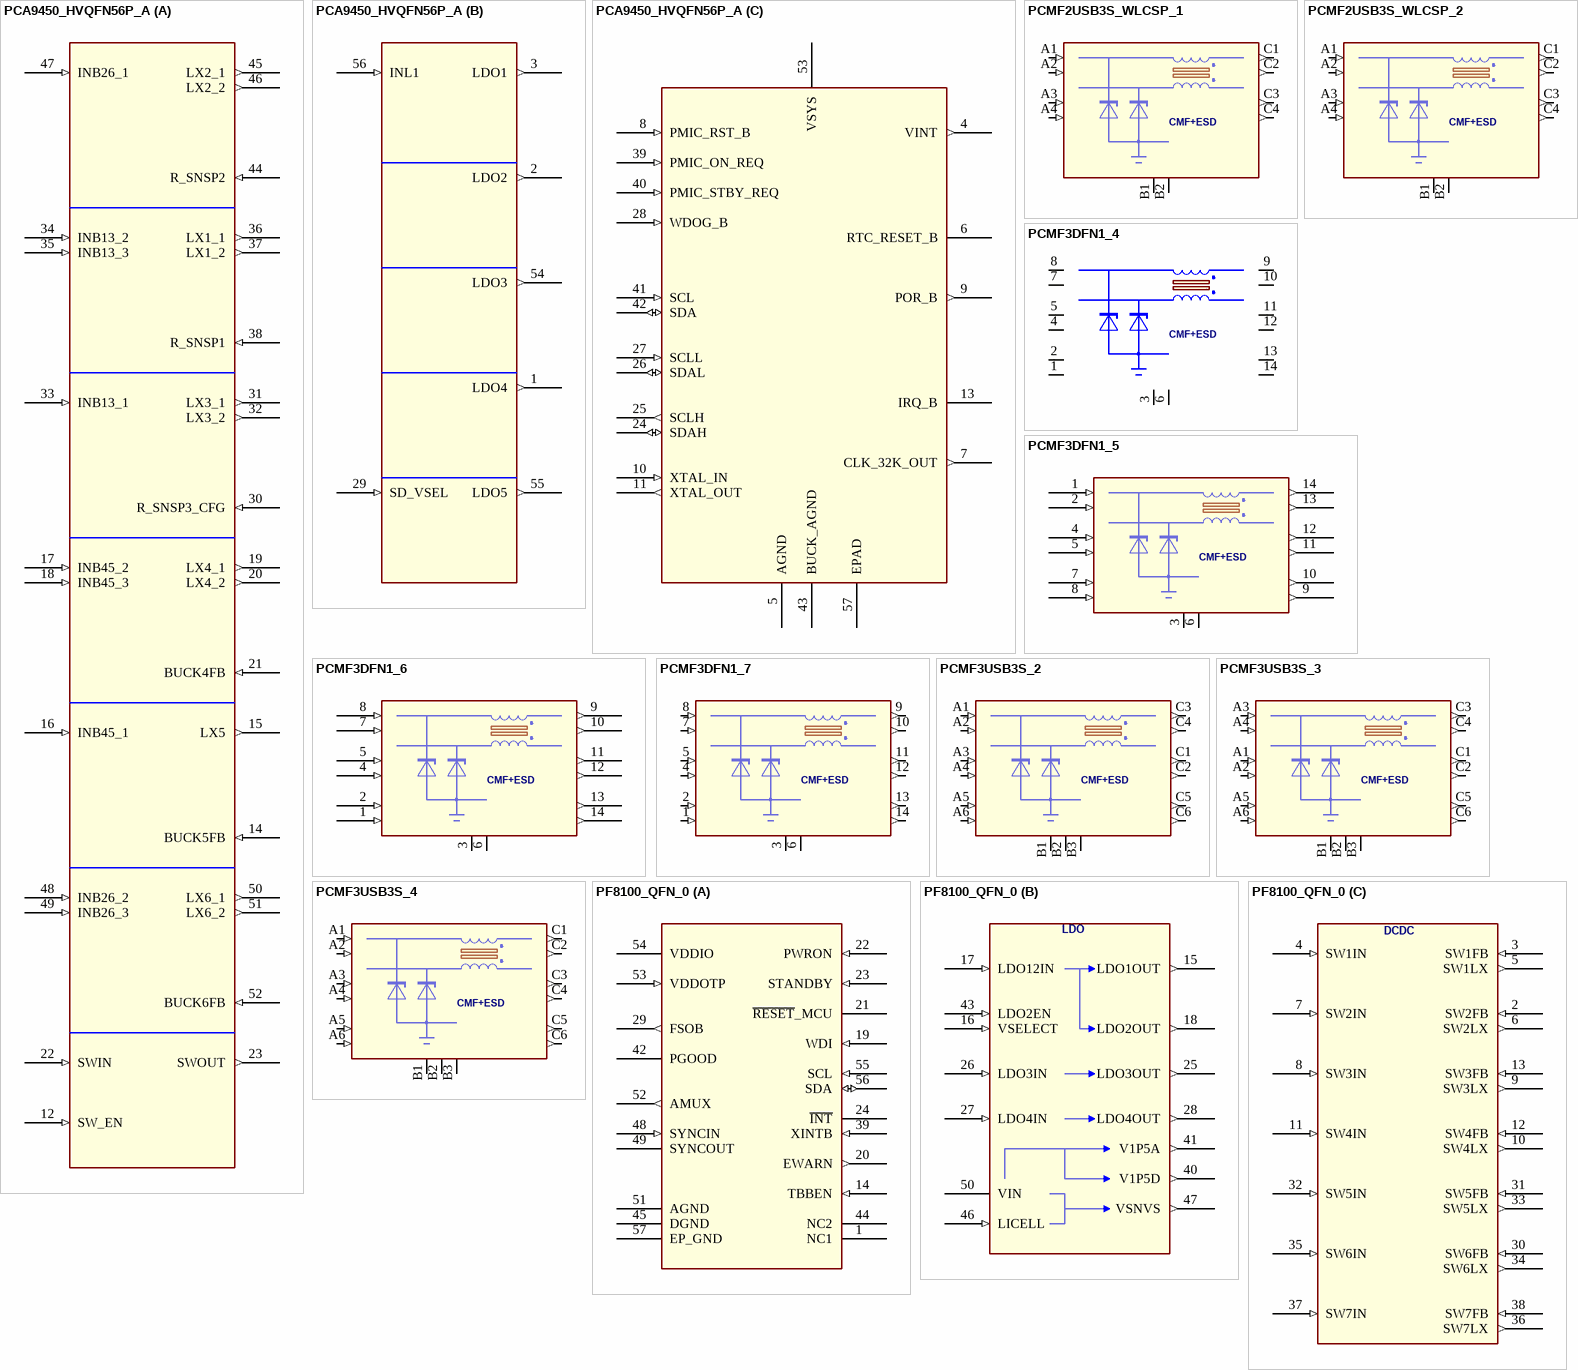
[diagram p20: symbols PCA9450_HVQFN56P_A to PF8100_QFN_0]

## PCA9450_HVQFN56P_A
designator U?
CLASS: IC; SPLIT_INST: TRUE; SWAP_INFO: (S1+S2+S3)
part A pins: 12 SW_EN (in), 14 BUCK5FB (in), 15 LX5 (out), 16 INB45_1 (in), 17 INB45_2 (in), 18 INB45_3 (in), 19 LX4_1 (out), 20 LX4_2 (out), 21 BUCK4FB (in), 22 SWIN (in), 23 SWOUT (out), 30 R_SNSP3_CFG (in), 31 LX3_1 (out), 32 LX3_2 (out), 33 INB13_1 (in), 34 INB13_2 (in), 35 INB13_3 (in), 36 LX1_1 (out), 37 LX1_2 (out), 38 R_SNSP1 (in), 44 R_SNSP2 (in), 45 LX2_1 (out), 46 LX2_2 (out), 47 INB26_1 (in), 48 INB26_2 (in), 49 INB26_3 (in), 50 LX6_1 (out), 51 LX6_2 (out), 52 BUCK6FB (in)
part B pins: 1 LDO4 (out), 2 LDO2 (out), 3 LDO1 (out), 29 SD_VSEL (in), 54 LDO3 (out), 55 LDO5 (out), 56 INL1 (in)
part C pins: 4 VINT (out), 5 AGND (power), 6 RTC_RESET_B (oc), 7 CLK_32K_OUT (out), 8 PMIC_RST_B (in), 9 POR_B (out), 10 XTAL_IN (in), 11 XTAL_OUT (out), 13 IRQ_B (oc), 24 SDAH (io), 25 SCLH (out), 26 SDAL (io), 27 SCLL (in), 28 WDOG_B (in), 39 PMIC_ON_REQ (in), 40 PMIC_STBY_REQ (in), 41 SCL (in), 42 SDA (io), 43 BUCK_AGND (power), 53 VSYS (power), 57 EPAD (power)

## PCMF2USB3S_WLCSP_1
designator U?
CLASS: IC
pins: A1 CH1_IN+ (in), A2 CH1_IN- (in), A3 CH2_IN+ (in), A4 CH2_IN- (in), B1 GND_CH1 (power), B2 GND_CH2 (power), C1 CH1_OUT+ (out), C2 CH1_OUT- (out), C3 CH2_OUT+ (out), C4 CH2_OUT- (out)
text: CMF+ESD

## PCMF2USB3S_WLCSP_2
designator U?
CLASS: IC
pins: A1 CH1_IN+ (in), A2 CH1_IN- (in), A3 CH2_IN+ (in), A4 CH2_IN- (in), B1 GND_CH1 (power), B2 GND_CH2 (power), C1 CH1_OUT+ (out), C2 CH1_OUT- (out), C3 CH2_OUT+ (out), C4 CH2_OUT- (out)
text: CMF+ESD

## PCMF3DFN1_4
designator U?
CLASS: IC
footprint SOT1334-1
pins: 1 CH1_IN+, 2 CH1_IN-, 3 GND_1, 4 CH2_IN+, 5 CH2_IN-, 6 GND_2, 7 CH3_IN+, 8 CH3_IN-, 9 CH3_OUT-, 10 CH3_OUT+, 11 CH2_OUT-, 12 CH2_OUT+, 13 CH1_OUT-, 14 CH1_OUT+
text: CMF+ESD

## PCMF3DFN1_5
designator U?
CLASS: IC
pins: 1 CH1_IN+ (in), 2 CH1_IN- (in), 3 GND_1 (power), 4 CH2_IN+ (in), 5 CH2_IN- (in), 6 GND_2 (power), 7 CH3_IN+ (in), 8 CH3_IN- (in), 9 CH3_OUT- (out), 10 CH3_OUT+ (out), 11 CH2_OUT- (out), 12 CH2_OUT+ (out), 13 CH1_OUT- (out), 14 CH1_OUT+ (out)
text: CMF+ESD

## PCMF3DFN1_6
designator U?
CLASS: IC
pins: 1 CH1_IN+ (in), 2 CH1_IN- (in), 3 GND_1 (power), 4 CH2_IN+ (in), 5 CH2_IN- (in), 6 GND_2 (power), 7 CH3_IN+ (in), 8 CH3_IN- (in), 9 CH3_OUT- (out), 10 CH3_OUT+ (out), 11 CH2_OUT- (out), 12 CH2_OUT+ (out), 13 CH1_OUT- (out), 14 CH1_OUT+ (out)
text: CMF+ESD

## PCMF3DFN1_7
designator U?
CLASS: IC
pins: 1 CH1_IN+ (in), 2 CH1_IN- (in), 3 GND_1 (power), 4 CH2_IN+ (in), 5 CH2_IN- (in), 6 GND_2 (power), 7 CH3_IN+ (in), 8 CH3_IN- (in), 9 CH3_OUT- (out), 10 CH3_OUT+ (out), 11 CH2_OUT- (out), 12 CH2_OUT+ (out), 13 CH1_OUT- (out), 14 CH1_OUT+ (out)
text: CMF+ESD

## PCMF3USB3S_2
designator U?
CLASS: IC
pins: A1 CH1_IN+ (in), A2 CH1_IN- (in), A3 CH2_IN+ (in), A4 CH2_IN- (in), A5 CH3_IN+ (in), A6 CH3_IN- (in), B1 GND_CH1 (power), B2 GND_CH2 (power), B3 GND_CH3 (power), C1 CH1_OUT+ (out), C2 CH1_OUT- (out), C3 CH2_OUT+ (out), C4 CH2_OUT- (out), C5 CH3_OUT+ (out), C6 CH3_OUT- (out)
text: CMF+ESD

## PCMF3USB3S_3
designator U?
CLASS: IC
pins: A1 CH1_IN+ (in), A2 CH1_IN- (in), A3 CH2_IN+ (in), A4 CH2_IN- (in), A5 CH3_IN+ (in), A6 CH3_IN- (in), B1 GND_CH1 (power), B2 GND_CH2 (power), B3 GND_CH3 (power), C1 CH1_OUT+ (out), C2 CH1_OUT- (out), C3 CH2_OUT+ (out), C4 CH2_OUT- (out), C5 CH3_OUT+ (out), C6 CH3_OUT- (out)
text: CMF+ESD

## PCMF3USB3S_4
designator U?
CLASS: IC
pins: A1 CH1_IN+ (in), A2 CH1_IN- (in), A3 CH2_IN+ (in), A4 CH2_IN- (in), A5 CH3_IN+ (in), A6 CH3_IN- (in), B1 GND_CH1 (power), B2 GND_CH2 (power), B3 GND_CH3 (power), C1 CH1_OUT+ (out), C2 CH1_OUT- (out), C3 CH2_OUT+ (out), C4 CH2_OUT- (out), C5 CH3_OUT+ (out), C6 CH3_OUT- (out)
text: CMF+ESD

## PF8100_QFN_0
designator U?
SWAP_INFO: (S1+S2+S3); SPLIT_INST: TRUE; CLASS: IC
part A pins: 1 NC1, 14 TBBEN (in), 19 WDI (in), 20 EWARN (out), 21 ~{RESET}_MCU (oc), 22 PWRON (in), 23 STANDBY (in), 24 ~{INT} (oc), 29 FSOB (out), 39 XINTB (in), 42 PGOOD (oc), 44 NC2, 45 DGND (power), 48 SYNCIN (in), 49 SYNCOUT, 51 AGND (power), 52 AMUX (out), 53 VDDOTP (in), 54 VDDIO (power), 55 SCL (in), 56 SDA (io), 57 EP_GND (power)
part B pins: 15 LDO1OUT (out), 16 VSELECT (in), 17 LDO12IN (in), 18 LDO2OUT (out), 25 LDO3OUT (out), 26 LDO3IN (in), 27 LDO4IN (in), 28 LDO4OUT (out), 40 V1P5D (out), 41 V1P5A (out), 43 LDO2EN (in), 46 LICELL (in), 47 VSNVS (out), 50 VIN (power)
part C pins: 2 SW2FB (in), 3 SW1FB (in), 4 SW1IN (in), 5 SW1LX (out), 6 SW2LX (out), 7 SW2IN (in), 8 SW3IN (in), 9 SW3LX (out), 10 SW4LX (out), 11 SW4IN (in), 12 SW4FB (in), 13 SW3FB (in), 30 SW6FB (in), 31 SW5FB (in), 32 SW5IN (in), 33 SW5LX (out), 34 SW6LX (out), 35 SW6IN (in), 36 SW7LX (out), 37 SW7IN (in), 38 SW7FB (in)
part B text: LDO
part C text: DCDC

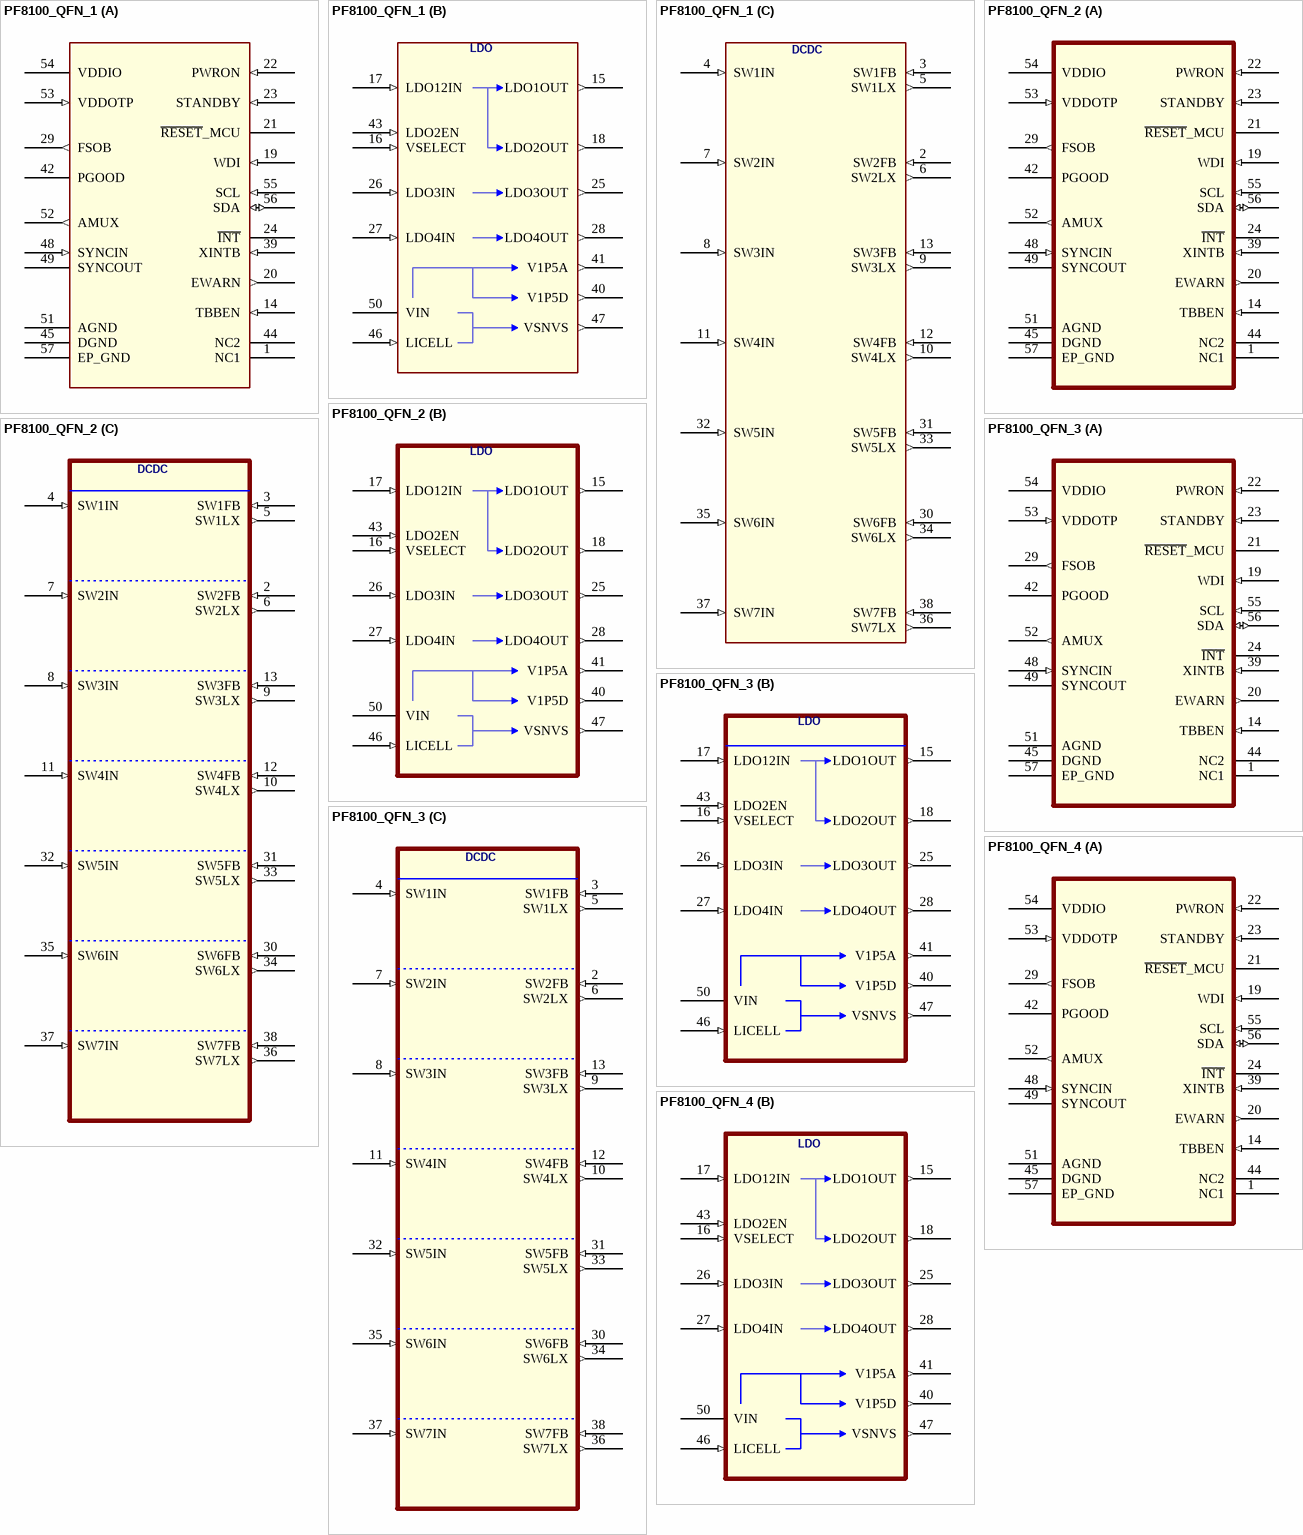
[diagram p21: symbols PF8100_QFN_1 to PF8100_QFN_4]

## PF8100_QFN_1
designator U?
SWAP_INFO: (S1+S2+S3); SPLIT_INST: TRUE; CLASS: IC
part A pins: 1 NC1, 14 TBBEN (in), 19 WDI (in), 20 EWARN (out), 21 ~{RESET}_MCU (oc), 22 PWRON (in), 23 STANDBY (in), 24 ~{INT} (oc), 29 FSOB (out), 39 XINTB (in), 42 PGOOD (oc), 44 NC2, 45 DGND (power), 48 SYNCIN (in), 49 SYNCOUT, 51 AGND (power), 52 AMUX (out), 53 VDDOTP (in), 54 VDDIO (power), 55 SCL (in), 56 SDA (io), 57 EP_GND (power)
part B pins: 15 LDO1OUT (out), 16 VSELECT (in), 17 LDO12IN (in), 18 LDO2OUT (out), 25 LDO3OUT (out), 26 LDO3IN (in), 27 LDO4IN (in), 28 LDO4OUT (out), 40 V1P5D (out), 41 V1P5A (out), 43 LDO2EN (in), 46 LICELL (in), 47 VSNVS (out), 50 VIN (power)
part C pins: 2 SW2FB (in), 3 SW1FB (in), 4 SW1IN (in), 5 SW1LX (out), 6 SW2LX (out), 7 SW2IN (in), 8 SW3IN (in), 9 SW3LX (out), 10 SW4LX (out), 11 SW4IN (in), 12 SW4FB (in), 13 SW3FB (in), 30 SW6FB (in), 31 SW5FB (in), 32 SW5IN (in), 33 SW5LX (out), 34 SW6LX (out), 35 SW6IN (in), 36 SW7LX (out), 37 SW7IN (in), 38 SW7FB (in)
part B text: LDO
part C text: DCDC

## PF8100_QFN_2
designator U?
SWAP_INFO: (S1+S2+S3); SPLIT_INST: TRUE; CLASS: IC
part A pins: 1 NC1, 14 TBBEN (in), 19 WDI (in), 20 EWARN (out), 21 ~{RESET}_MCU (oc), 22 PWRON (in), 23 STANDBY (in), 24 ~{INT} (oc), 29 FSOB (out), 39 XINTB (in), 42 PGOOD (oc), 44 NC2, 45 DGND (power), 48 SYNCIN (in), 49 SYNCOUT, 51 AGND (power), 52 AMUX (out), 53 VDDOTP (in), 54 VDDIO (power), 55 SCL (in), 56 SDA (io), 57 EP_GND (power)
part B pins: 15 LDO1OUT (out), 16 VSELECT (in), 17 LDO12IN (in), 18 LDO2OUT (out), 25 LDO3OUT (out), 26 LDO3IN (in), 27 LDO4IN (in), 28 LDO4OUT (out), 40 V1P5D (out), 41 V1P5A (out), 43 LDO2EN (in), 46 LICELL (in), 47 VSNVS (out), 50 VIN (power)
part C pins: 2 SW2FB (in), 3 SW1FB (in), 4 SW1IN (in), 5 SW1LX (out), 6 SW2LX (out), 7 SW2IN (in), 8 SW3IN (in), 9 SW3LX (out), 10 SW4LX (out), 11 SW4IN (in), 12 SW4FB (in), 13 SW3FB (in), 30 SW6FB (in), 31 SW5FB (in), 32 SW5IN (in), 33 SW5LX (out), 34 SW6LX (out), 35 SW6IN (in), 36 SW7LX (out), 37 SW7IN (in), 38 SW7FB (in)
part B text: LDO
part C text: DCDC

## PF8100_QFN_3
designator U?
SWAP_INFO: (S1+S2+S3); SPLIT_INST: TRUE; CLASS: IC
part A pins: 1 NC1, 14 TBBEN (in), 19 WDI (in), 20 EWARN (out), 21 ~{RESET}_MCU (oc), 22 PWRON (in), 23 STANDBY (in), 24 ~{INT} (oc), 29 FSOB (out), 39 XINTB (in), 42 PGOOD (oc), 44 NC2, 45 DGND (power), 48 SYNCIN (in), 49 SYNCOUT, 51 AGND (power), 52 AMUX (out), 53 VDDOTP (in), 54 VDDIO (power), 55 SCL (in), 56 SDA (io), 57 EP_GND (power)
part B pins: 15 LDO1OUT (out), 16 VSELECT (in), 17 LDO12IN (in), 18 LDO2OUT (out), 25 LDO3OUT (out), 26 LDO3IN (in), 27 LDO4IN (in), 28 LDO4OUT (out), 40 V1P5D (out), 41 V1P5A (out), 43 LDO2EN (in), 46 LICELL (in), 47 VSNVS (out), 50 VIN (power)
part C pins: 2 SW2FB (in), 3 SW1FB (in), 4 SW1IN (in), 5 SW1LX (out), 6 SW2LX (out), 7 SW2IN (in), 8 SW3IN (in), 9 SW3LX (out), 10 SW4LX (out), 11 SW4IN (in), 12 SW4FB (in), 13 SW3FB (in), 30 SW6FB (in), 31 SW5FB (in), 32 SW5IN (in), 33 SW5LX (out), 34 SW6LX (out), 35 SW6IN (in), 36 SW7LX (out), 37 SW7IN (in), 38 SW7FB (in)
part B text: LDO
part C text: DCDC

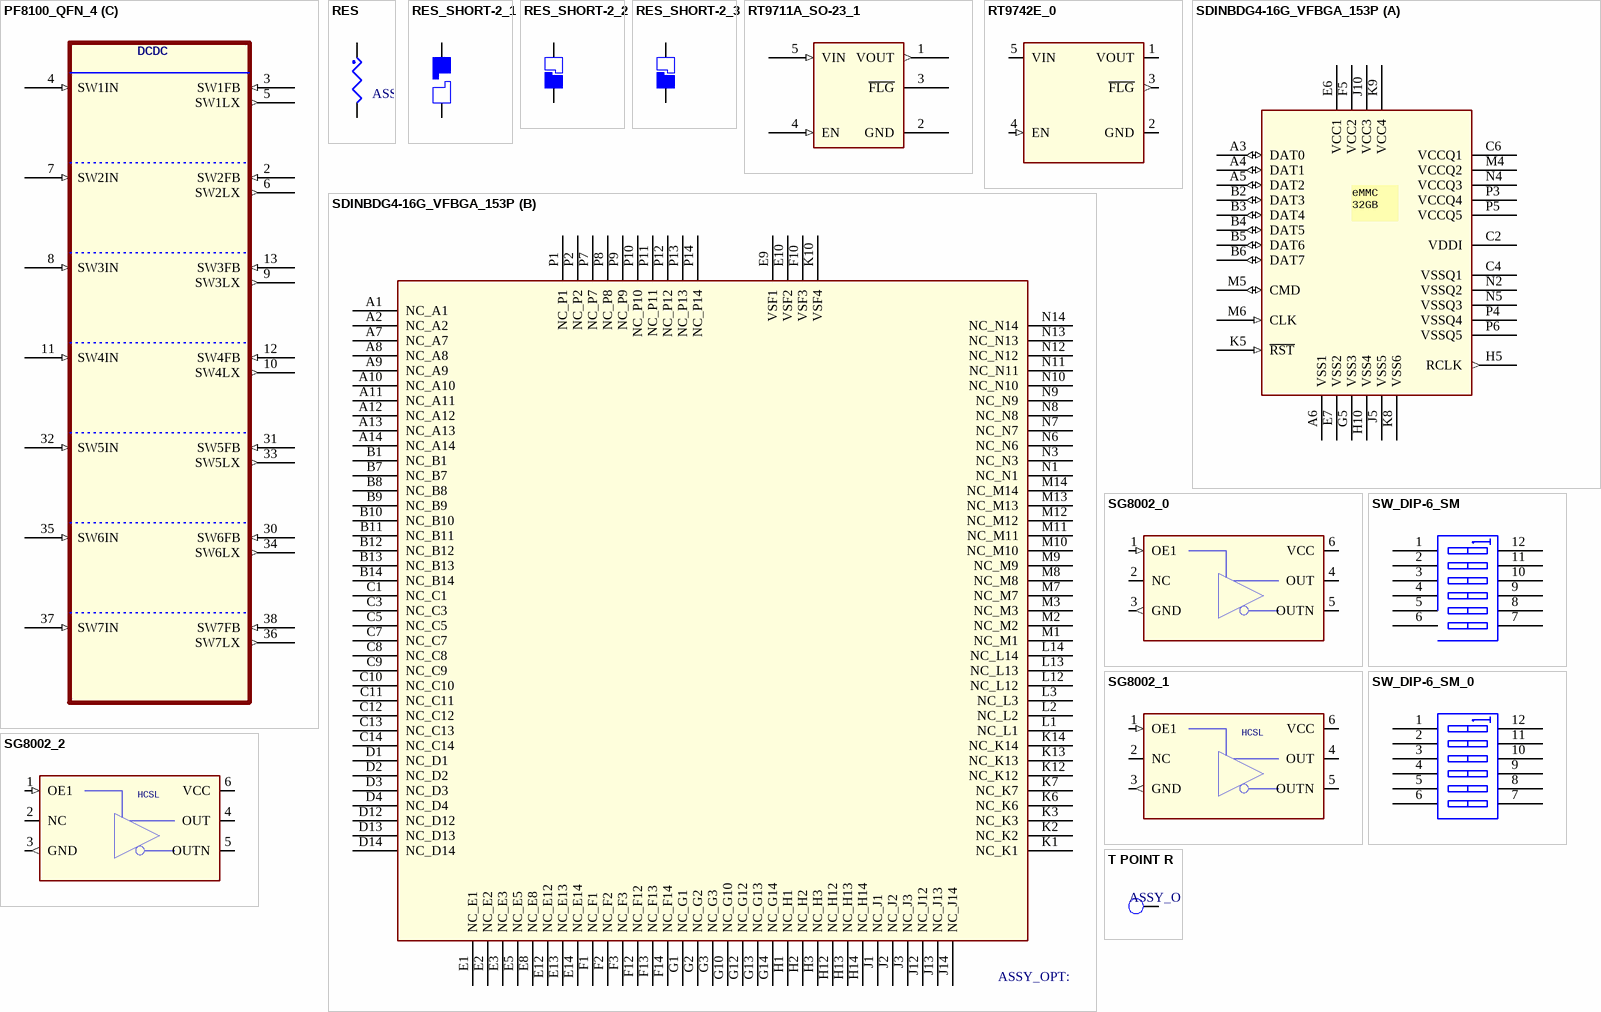
[diagram p22: symbols PF8100_QFN_4 to T POINT R]

## PF8100_QFN_4
designator U?
SWAP_INFO: (S1+S2+S3); SPLIT_INST: TRUE; CLASS: IC
part A pins: 1 NC1, 14 TBBEN (in), 19 WDI (in), 20 EWARN (out), 21 ~{RESET}_MCU (oc), 22 PWRON (in), 23 STANDBY (in), 24 ~{INT} (oc), 29 FSOB (out), 39 XINTB (in), 42 PGOOD (oc), 44 NC2, 45 DGND (power), 48 SYNCIN (in), 49 SYNCOUT, 51 AGND (power), 52 AMUX (out), 53 VDDOTP (in), 54 VDDIO (power), 55 SCL (in), 56 SDA (io), 57 EP_GND (power)
part B pins: 15 LDO1OUT (out), 16 VSELECT (in), 17 LDO12IN (in), 18 LDO2OUT (out), 25 LDO3OUT (out), 26 LDO3IN (in), 27 LDO4IN (in), 28 LDO4OUT (out), 40 V1P5D (out), 41 V1P5A (out), 43 LDO2EN (in), 46 LICELL (in), 47 VSNVS (out), 50 VIN (power)
part C pins: 2 SW2FB (in), 3 SW1FB (in), 4 SW1IN (in), 5 SW1LX (out), 6 SW2LX (out), 7 SW2IN (in), 8 SW3IN (in), 9 SW3LX (out), 10 SW4LX (out), 11 SW4IN (in), 12 SW4FB (in), 13 SW3FB (in), 30 SW6FB (in), 31 SW5FB (in), 32 SW5IN (in), 33 SW5LX (out), 34 SW6LX (out), 35 SW6IN (in), 36 SW7LX (out), 37 SW7IN (in), 38 SW7FB (in)
part B text: LDO
part C text: DCDC

## RES
designator R?
CLASS: DISCRETE
pins: 1, 2

## RES_SHORT-2_1
designator SH?
CLASS: DISCRETE
pins: 1, 2

## RES_SHORT-2_2
designator SH?
CLASS: DISCRETE
pins: 1, 2

## RES_SHORT-2_3
designator SH?
CLASS: DISCRETE
pins: 1, 2

## RT9711A_SO-23_1
designator U?
CLASS: IC
pins: 1 VOUT (out), 2 GND (power), 3 ~{FLG}, 4 EN (in), 5 VIN (in)

## RT9742E_0
designator U?
CLASS: IC
pins: 1 VOUT (power), 2 GND (power), 3 ~{FLG} (out), 4 EN (in), 5 VIN (power)

## SDINBDG4-16G_VFBGA_153P
designator U?
CLASS: IC
part A pins: A3 DAT0 (io), A4 DAT1 (io), A5 DAT2 (io), A6 VSS1 (power), B2 DAT3 (io), B3 DAT4 (io), B4 DAT5 (io), B5 DAT6 (io), B6 DAT7 (io), C2 VDDI (power), C4 VSSQ1 (power), C6 VCCQ1 (power), E6 VCC1 (power), E7 VSS2 (power), F5 VCC2 (power), G5 VSS3 (power), H5 RCLK (out), H10 VSS4 (power), J5 VSS5 (power), J10 VCC3 (power), K5 ~{RST} (in), K8 VSS6 (power), K9 VCC4 (power), M4 VCCQ2 (power), M5 CMD (io), M6 CLK (in), N2 VSSQ2 (power), N4 VCCQ3 (power), N5 VSSQ3 (power), P3 VCCQ4 (power), P4 VSSQ4 (power), P5 VCCQ5 (power), P6 VSSQ5 (power)
part B pins: A1 NC_A1, A2 NC_A2, A7 NC_A7, A8 NC_A8, A9 NC_A9, A10 NC_A10, A11 NC_A11, A12 NC_A12, A13 NC_A13, A14 NC_A14, B1 NC_B1, B7 NC_B7, B8 NC_B8, B9 NC_B9, B10 NC_B10, B11 NC_B11, B12 NC_B12, B13 NC_B13, B14 NC_B14, C1 NC_C1, C3 NC_C3, C5 NC_C5, C7 NC_C7, C8 NC_C8, C9 NC_C9, C10 NC_C10, C11 NC_C11, C12 NC_C12, C13 NC_C13, C14 NC_C14, D1 NC_D1, D2 NC_D2, D3 NC_D3, D4 NC_D4, D12 NC_D12, D13 NC_D13, D14 NC_D14, E1 NC_E1, E2 NC_E2, E3 NC_E3, E5 NC_E5, E8 NC_E8, E9 VSF1, E10 VSF2, E12 NC_E12, E13 NC_E13, E14 NC_E14, F1 NC_F1, F2 NC_F2, F3 NC_F3, F10 VSF3, F12 NC_F12, F13 NC_F13, F14 NC_F14, G1 NC_G1, G2 NC_G2, G3 NC_G3, G10 NC_G10, G12 NC_G12, G13 NC_G13, G14 NC_G14, H1 NC_H1, H2 NC_H2, H3 NC_H3, H12 NC_H12, H13 NC_H13, H14 NC_H14, J1 NC_J1, J2 NC_J2, J3 NC_J3, J12 NC_J12, J13 NC_J13, J14 NC_J14, K1 NC_K1, K2 NC_K2, K3 NC_K3, K6 NC_K6, K7 NC_K7, K10 VSF4, K12 NC_K12, K13 NC_K13, K14 NC_K14, L1 NC_L1, L2 NC_L2, L3 NC_L3, L12 NC_L12, L13 NC_L13, L14 NC_L14, M1 NC_M1, M2 NC_M2, M3 NC_M3, M7 NC_M7, M8 NC_M8, M9 NC_M9, M10 NC_M10, M11 NC_M11, M12 NC_M12, M13 NC_M13, M14 NC_M14, N1 NC_N1, N3 NC_N3, N6 NC_N6, N7 NC_N7, N8 NC_N8, N9 NC_N9, N10 NC_N10, N11 NC_N11, N12 NC_N12, N13 NC_N13, N14 NC_N14, P1 NC_P1, P2 NC_P2, P7 NC_P7, P8 NC_P8, P9 NC_P9, P10 NC_P10, P11 NC_P11, P12 NC_P12, P13 NC_P13, P14 NC_P14
part A text: eMMC / 32GB

## SG8002_0
designator Y?
CLASS: IC
pins: 1 OE1 (in), 2 NC (power), 3 GND (out), 4 OUT (power), 5 OUTN, 6 VCC

## SG8002_1
designator Y?
CLASS: IC
pins: 1 OE1 (in), 2 NC (power), 3 GND (out), 4 OUT (power), 5 OUTN, 6 VCC
text: HCSL

## SG8002_2
designator Y?
CLASS: IC
pins: 1 OE1 (in), 2 NC, 3 GND (out), 4 OUT (power), 5 OUTN, 6 VCC
text: HCSL

## SW_DIP-6_SM
designator SW?
CLASS: IC
pins: 1 A1, 2 A2, 3 A3, 4 A4, 5 A5, 6 A6, 7 B6, 8 B5, 9 B4, 10 B3, 11 B2, 12 B1

## SW_DIP-6_SM_0
designator SW?
CLASS: IC
pins: 1 A1, 2 A2, 3 A3, 4 A4, 5 A5, 6 A6, 7 B6, 8 B5, 9 B4, 10 B3, 11 B2, 12 B1

## T POINT R
designator TP?  (value not drawn)
CLASS: IC
pins: 1 TP

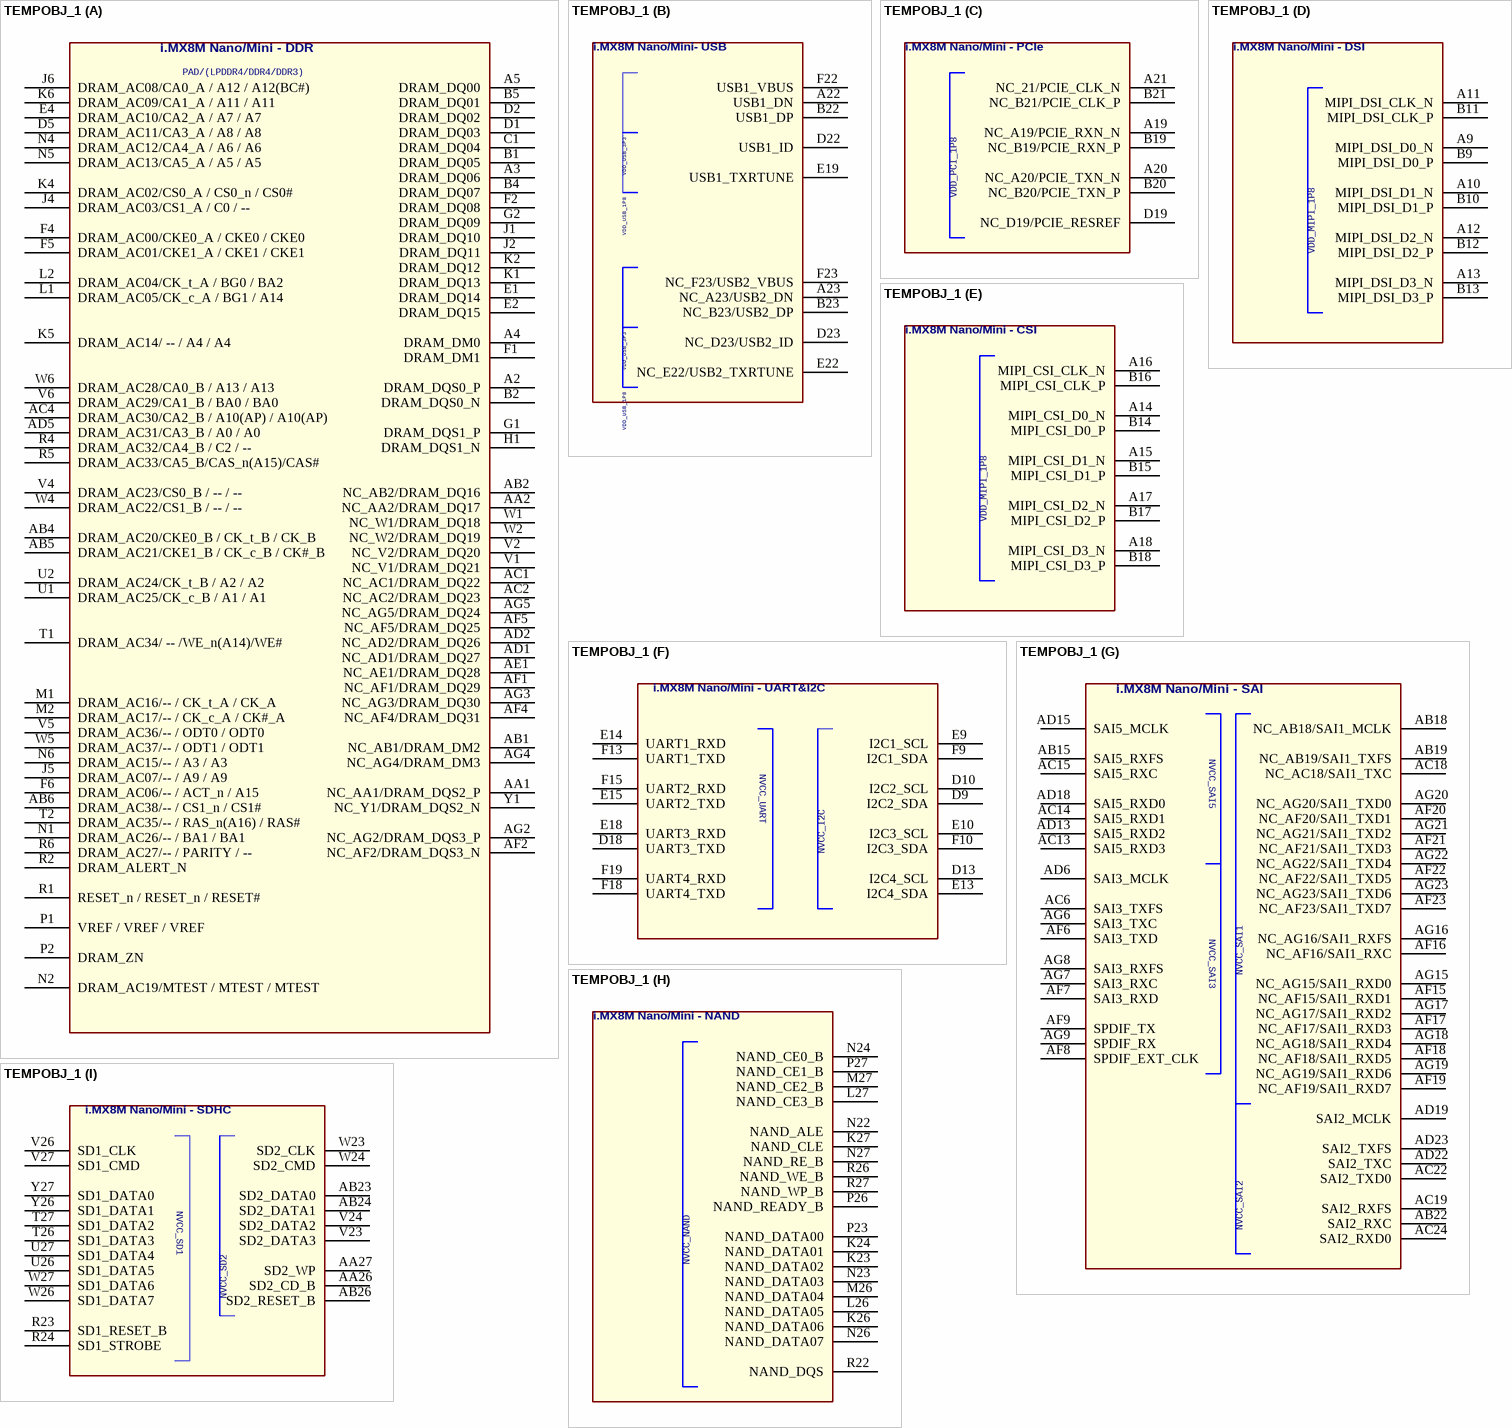
[diagram p23: symbol TEMPOBJ_1]

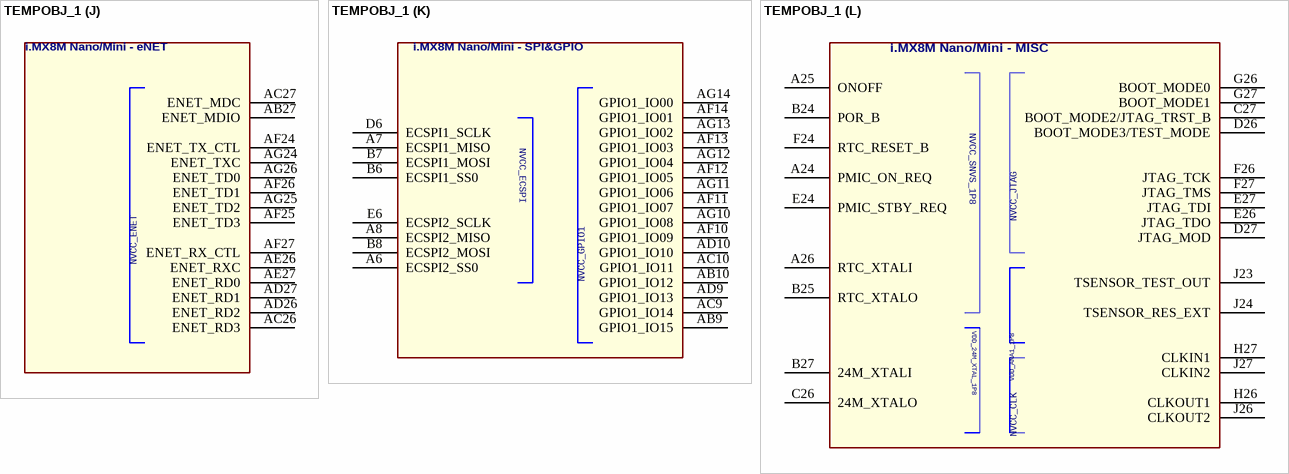
[diagram p24: symbol TEMPOBJ_1]

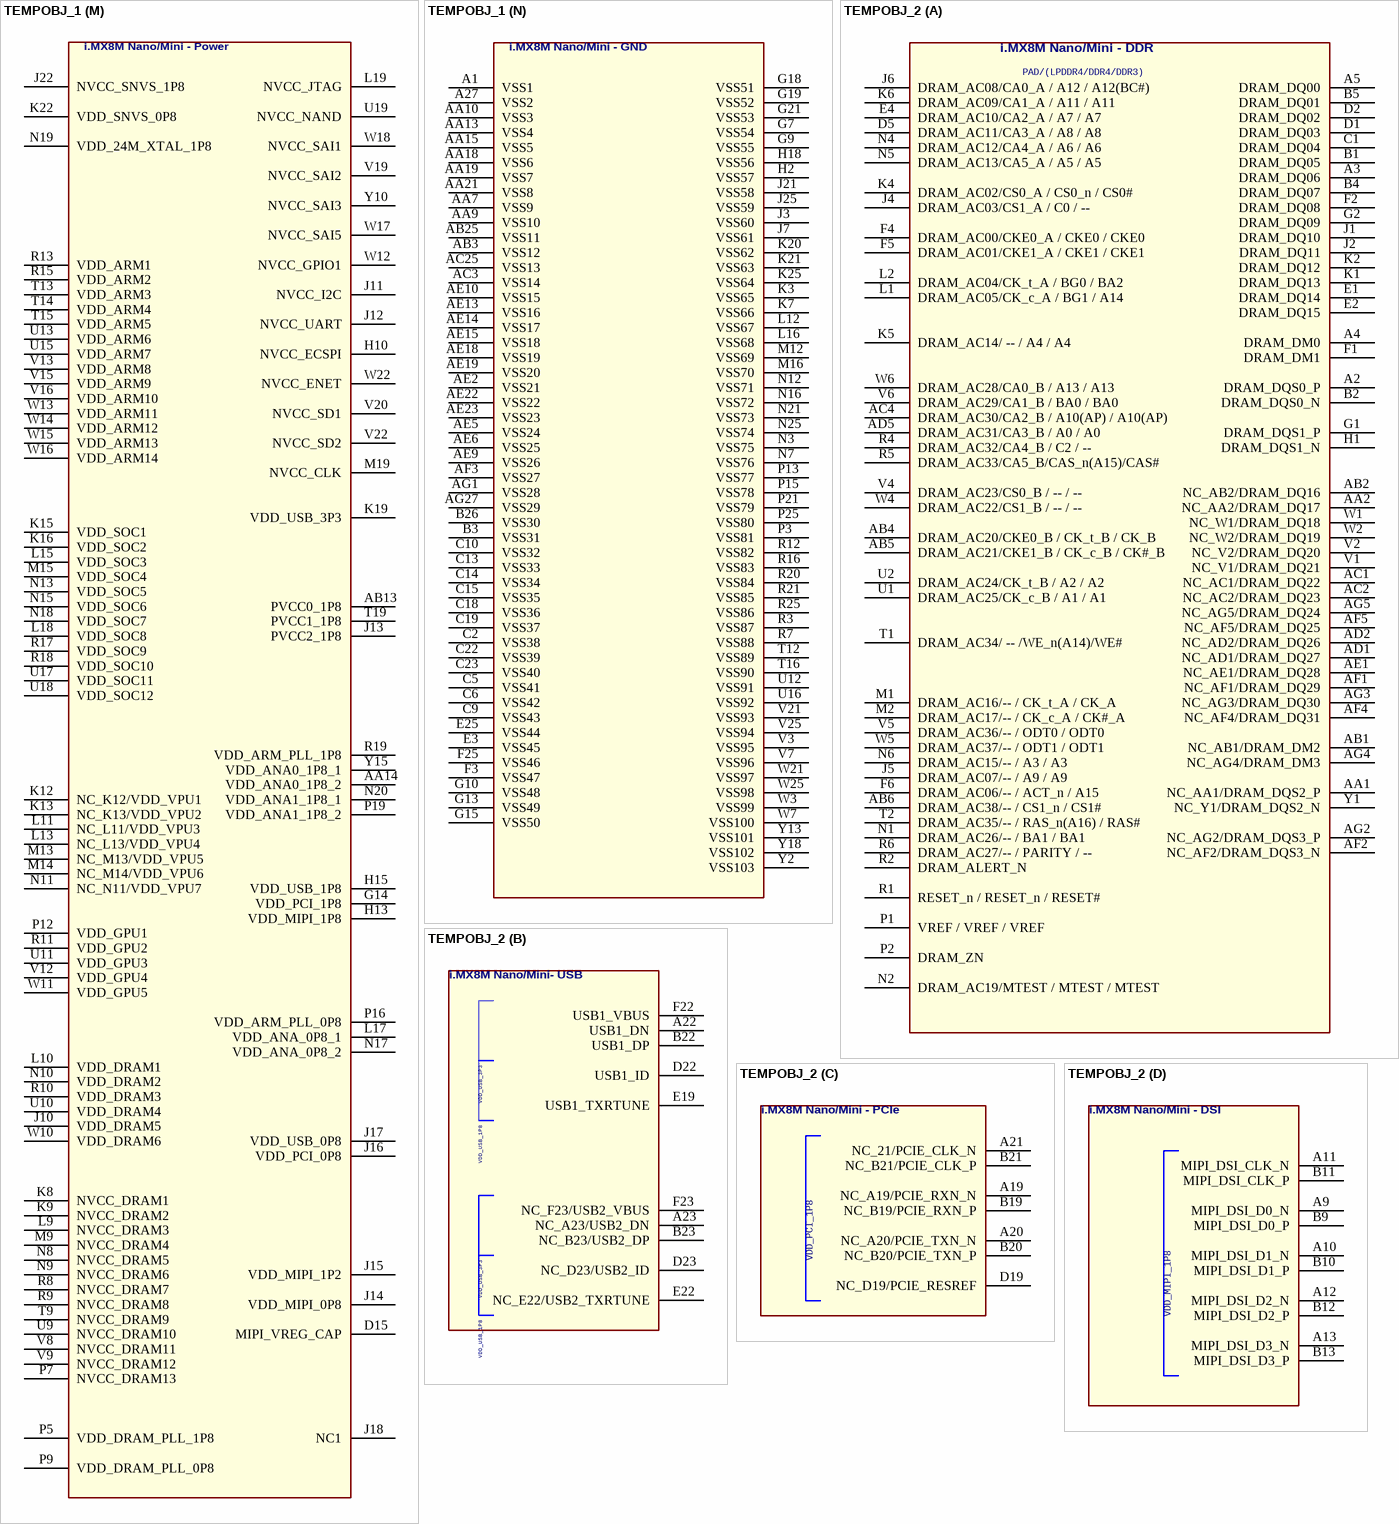
[diagram p25: symbols TEMPOBJ_1 to TEMPOBJ_2]